# Altium integrated library Altera ACEX 1K.IntLib: 67 symbols (part 5 of 7)
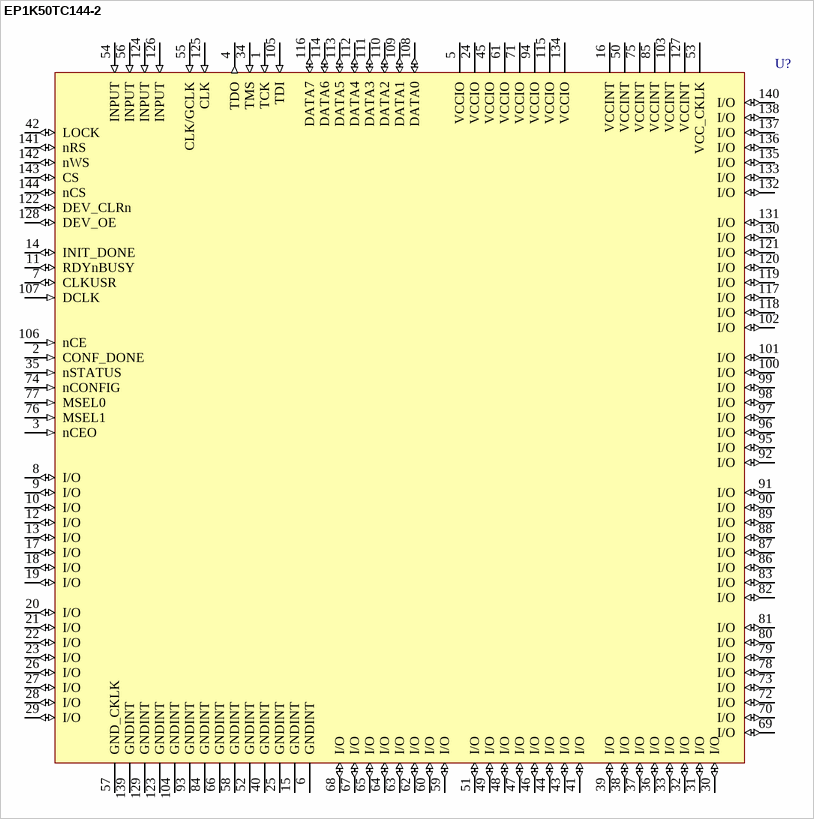
[diagram p77: symbol EP1K50TC144-2]

## EP1K50TC144-2
designator U?
ACEX 1K PLD with 102 I/O Pins, 144-pin TQFP, Commercial Grade, Speed Grade 2; Published: 17-Jul-2002; LatestRevisionDate: 13-Apr-2006; LatestRevisionNote: IPC-7351 Footprint Added.; DatasheetVersion: May-2003; PackageVersion: ver14.1, Oct-2005; PackageReference: TQFP144; Publisher: Altium Limited; PackageDescription: 144-Pin Plastic Thin Quad Flat Pack (TQFP144); Code_JEDEC: MS-026-BFB; ComponentLink1Description: Manufacturer Link; ComponentLink1URL: http://www.altera.com/products/devices/acex/acx-index.html; ComponentLink2Description: Datasheet; ComponentLink2URL: http://www.altera.com/literature/ds/acex.pdf
footprint TQFP144_N (Thin QFP, 144-Leads, Body 20x20mm, Pitch 0.5mm, IPC Medium Density)
footprint TQFP144_L (Thin QFP, 144-Leads, Body 20x20mm, Pitch 0.5mm, IPC High Density)
footprint TQFP144_M (Thin QFP, 144-Leads, Body 20x20mm, Pitch 0.5mm, IPC Low Density)
3D model EP1K50-TQFP144 (144-Pin Plastic Thin Quad Flat Pack (TQFP144))
pins: 1 TCK (in), 2 CONF_DONE (in), 3 nCEO (in), 4 TDO (out), 5 VCCIO (power), 6 GNDINT (power), 7 CLKUSR (io), 8 I/O (io), 9 I/O (io), 10 I/O (io), 11 RDYnBUSY (io), 12 I/O (io), 13 I/O (io), 14 INIT_DONE (io), 15 GNDINT (power), 16 VCCINT (power), 17 I/O (io), 18 I/O (io), 19 I/O (io), 20 I/O (io), 21 I/O (io), 22 I/O (io), 23 I/O (io), 24 VCCIO (power), 25 GNDINT (power), 26 I/O (io), 27 I/O (io), 28 I/O (io), 29 I/O (io), 30 I/O (io), 31 I/O (io), 32 I/O (io), 33 I/O (io), 34 TMS (in), 35 nSTATUS (in), 36 I/O (io), 37 I/O (io), 38 I/O (io), 39 I/O (io), 40 GNDINT (power), 41 I/O (io), 42 LOCK (io), 43 I/O (io), 44 I/O (io), 45 VCCIO (power), 46 I/O (io), 47 I/O (io), 48 I/O (io), 49 I/O (io), 50 VCCINT (power), 51 I/O (io), 52 GNDINT (power), 53 VCC_CKLK (power), 54 INPUT (in), 55 CLK/GCLK (in), 56 INPUT (in), 57 GND_CKLK (power), 58 GNDINT (power), 59 I/O (io), 60 I/O (io), 61 VCCIO (power), 62 I/O (io), 63 I/O (io), 64 I/O (io), 65 I/O (io), 66 GNDINT (power), 67 I/O (io), 68 I/O (io), 69 I/O (io), 70 I/O (io), 71 VCCIO (power), 72 I/O (io), 73 I/O (io), 74 nCONFIG (in), 75 VCCINT (power), 76 MSEL1 (in), 77 MSEL0 (in), 78 I/O (io), 79 I/O (io), 80 I/O (io), 81 I/O (io), 82 I/O (io), 83 I/O (io), 84 GNDINT (power), 85 VCCINT (power), 86 I/O (io), 87 I/O (io), 88 I/O (io), 89 I/O (io), 90 I/O (io), 91 I/O (io), 92 I/O (io), 93 GNDINT (power), 94 VCCIO (power), 95 I/O (io), 96 I/O (io), 97 I/O (io), 98 I/O (io), 99 I/O (io), 100 I/O (io), 101 I/O (io), 102 I/O (io), 103 VCCINT (power), 104 GNDINT (power), 105 TDI (in), 106 nCE (in), 107 DCLK (in), 108 DATA0 (io), 109 DATA1 (io), 110 DATA2 (io), 111 DATA3 (io), 112 DATA4 (io), 113 DATA5 (io), 114 DATA6 (io), 115 VCCIO (power), 116 DATA7 (io), 117 I/O (io), 118 I/O (io), 119 I/O (io), 120 I/O (io), 121 I/O (io), 122 DEV_CLRn (io), 123 GNDINT (power), 124 INPUT (in), 125 CLK (in), 126 INPUT (in), 127 VCCINT (power), 128 DEV_OE (io), 129 GNDINT (power), 130 I/O (io), 131 I/O (io), 132 I/O (io), 133 I/O (io), 134 VCCIO (power), 135 I/O (io), 136 I/O (io), 137 I/O (io), 138 I/O (io), 139 GNDINT (power), 140 I/O (io), 141 nRS (io), 142 nWS (io), 143 CS (io), 144 nCS (io)

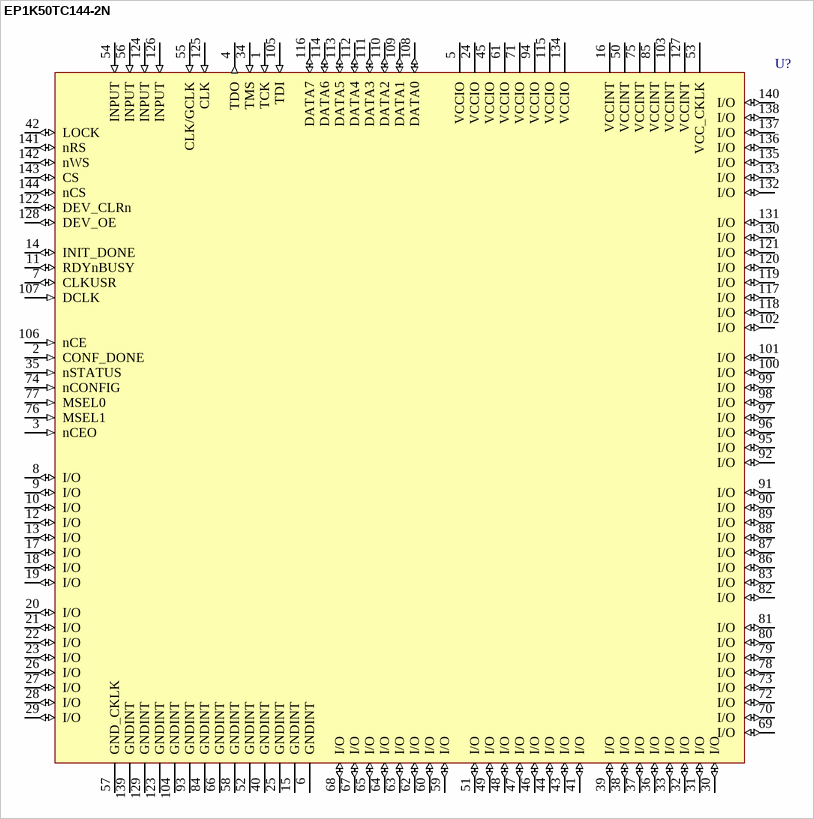
[diagram p40: symbol EP1K50TC144-2N]

## EP1K50TC144-2N
designator U?
ACEX 1K PLD with 102 I/O Pins, 144-pin TQFP, Commercial Grade, Speed Grade 2, Pb-Free; Published: 4-Mar-2005; LatestRevisionDate: 13-Apr-2006; LatestRevisionNote: IPC-7351 Footprint Added.; DatasheetVersion: May-2003; PackageVersion: ver14.1, Oct-2005; PackageReference: TQFP144; Publisher: Altium Limited; PackageDescription: 144-Pin Plastic Thin Quad Flat Pack (TQFP144); Code_JEDEC: MS-026-BFB; ComponentLink1Description: Manufacturer Link; ComponentLink1URL: http://www.altera.com/products/devices/acex/acx-index.html; ComponentLink2Description: Datasheet; ComponentLink2URL: http://www.altera.com/literature/ds/acex.pdf
footprint TQFP144_N (Thin QFP, 144-Leads, Body 20x20mm, Pitch 0.5mm, IPC Medium Density)
footprint TQFP144_L (Thin QFP, 144-Leads, Body 20x20mm, Pitch 0.5mm, IPC High Density)
footprint TQFP144_M (Thin QFP, 144-Leads, Body 20x20mm, Pitch 0.5mm, IPC Low Density)
3D model EP1K50-TQFP144 (144-Pin Plastic Thin Quad Flat Pack (TQFP144))
pins: 1 TCK (in), 2 CONF_DONE (in), 3 nCEO (in), 4 TDO (out), 5 VCCIO (power), 6 GNDINT (power), 7 CLKUSR (io), 8 I/O (io), 9 I/O (io), 10 I/O (io), 11 RDYnBUSY (io), 12 I/O (io), 13 I/O (io), 14 INIT_DONE (io), 15 GNDINT (power), 16 VCCINT (power), 17 I/O (io), 18 I/O (io), 19 I/O (io), 20 I/O (io), 21 I/O (io), 22 I/O (io), 23 I/O (io), 24 VCCIO (power), 25 GNDINT (power), 26 I/O (io), 27 I/O (io), 28 I/O (io), 29 I/O (io), 30 I/O (io), 31 I/O (io), 32 I/O (io), 33 I/O (io), 34 TMS (in), 35 nSTATUS (in), 36 I/O (io), 37 I/O (io), 38 I/O (io), 39 I/O (io), 40 GNDINT (power), 41 I/O (io), 42 LOCK (io), 43 I/O (io), 44 I/O (io), 45 VCCIO (power), 46 I/O (io), 47 I/O (io), 48 I/O (io), 49 I/O (io), 50 VCCINT (power), 51 I/O (io), 52 GNDINT (power), 53 VCC_CKLK (power), 54 INPUT (in), 55 CLK/GCLK (in), 56 INPUT (in), 57 GND_CKLK (power), 58 GNDINT (power), 59 I/O (io), 60 I/O (io), 61 VCCIO (power), 62 I/O (io), 63 I/O (io), 64 I/O (io), 65 I/O (io), 66 GNDINT (power), 67 I/O (io), 68 I/O (io), 69 I/O (io), 70 I/O (io), 71 VCCIO (power), 72 I/O (io), 73 I/O (io), 74 nCONFIG (in), 75 VCCINT (power), 76 MSEL1 (in), 77 MSEL0 (in), 78 I/O (io), 79 I/O (io), 80 I/O (io), 81 I/O (io), 82 I/O (io), 83 I/O (io), 84 GNDINT (power), 85 VCCINT (power), 86 I/O (io), 87 I/O (io), 88 I/O (io), 89 I/O (io), 90 I/O (io), 91 I/O (io), 92 I/O (io), 93 GNDINT (power), 94 VCCIO (power), 95 I/O (io), 96 I/O (io), 97 I/O (io), 98 I/O (io), 99 I/O (io), 100 I/O (io), 101 I/O (io), 102 I/O (io), 103 VCCINT (power), 104 GNDINT (power), 105 TDI (in), 106 nCE (in), 107 DCLK (in), 108 DATA0 (io), 109 DATA1 (io), 110 DATA2 (io), 111 DATA3 (io), 112 DATA4 (io), 113 DATA5 (io), 114 DATA6 (io), 115 VCCIO (power), 116 DATA7 (io), 117 I/O (io), 118 I/O (io), 119 I/O (io), 120 I/O (io), 121 I/O (io), 122 DEV_CLRn (io), 123 GNDINT (power), 124 INPUT (in), 125 CLK (in), 126 INPUT (in), 127 VCCINT (power), 128 DEV_OE (io), 129 GNDINT (power), 130 I/O (io), 131 I/O (io), 132 I/O (io), 133 I/O (io), 134 VCCIO (power), 135 I/O (io), 136 I/O (io), 137 I/O (io), 138 I/O (io), 139 GNDINT (power), 140 I/O (io), 141 nRS (io), 142 nWS (io), 143 CS (io), 144 nCS (io)

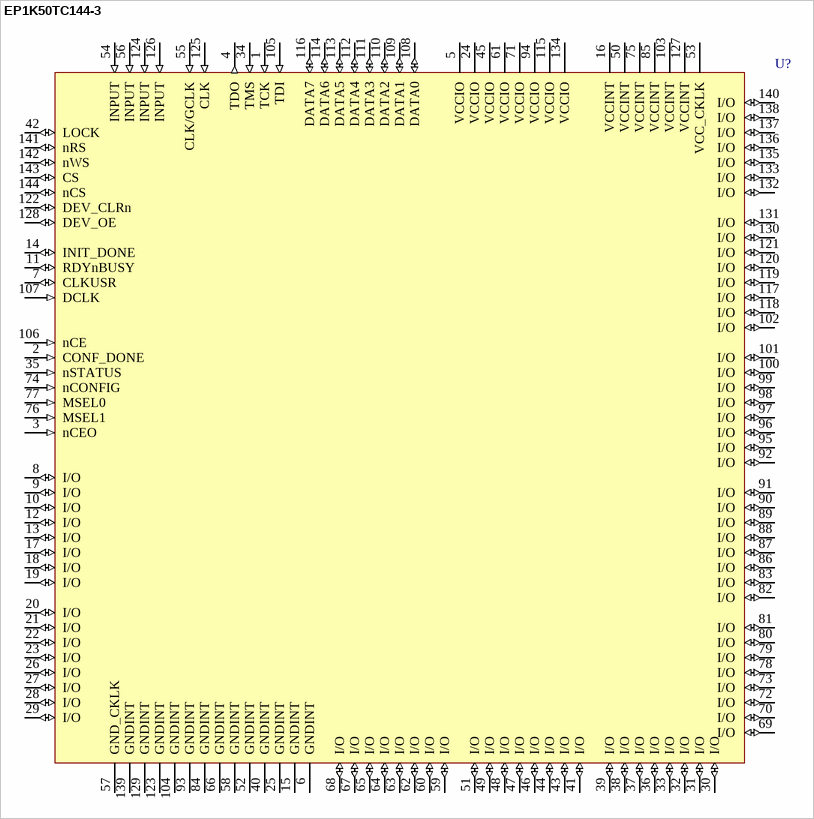
[diagram p41: symbol EP1K50TC144-3]

## EP1K50TC144-3
designator U?
ACEX 1K PLD with 102 I/O Pins, 144-pin TQFP, Commercial Grade, Speed Grade 3; Published: 17-Jul-2002; LatestRevisionDate: 13-Apr-2006; LatestRevisionNote: IPC-7351 Footprint Added.; DatasheetVersion: May-2003; PackageVersion: ver14.1, Oct-2005; PackageReference: TQFP144; Publisher: Altium Limited; PackageDescription: 144-Pin Plastic Thin Quad Flat Pack (TQFP144); Code_JEDEC: MS-026-BFB; ComponentLink1Description: Manufacturer Link; ComponentLink1URL: http://www.altera.com/products/devices/acex/acx-index.html; ComponentLink2Description: Datasheet; ComponentLink2URL: http://www.altera.com/literature/ds/acex.pdf
footprint TQFP144_N (Thin QFP, 144-Leads, Body 20x20mm, Pitch 0.5mm, IPC Medium Density)
footprint TQFP144_L (Thin QFP, 144-Leads, Body 20x20mm, Pitch 0.5mm, IPC High Density)
footprint TQFP144_M (Thin QFP, 144-Leads, Body 20x20mm, Pitch 0.5mm, IPC Low Density)
3D model EP1K50-TQFP144 (144-Pin Plastic Thin Quad Flat Pack (TQFP144))
pins: 1 TCK (in), 2 CONF_DONE (in), 3 nCEO (in), 4 TDO (out), 5 VCCIO (power), 6 GNDINT (power), 7 CLKUSR (io), 8 I/O (io), 9 I/O (io), 10 I/O (io), 11 RDYnBUSY (io), 12 I/O (io), 13 I/O (io), 14 INIT_DONE (io), 15 GNDINT (power), 16 VCCINT (power), 17 I/O (io), 18 I/O (io), 19 I/O (io), 20 I/O (io), 21 I/O (io), 22 I/O (io), 23 I/O (io), 24 VCCIO (power), 25 GNDINT (power), 26 I/O (io), 27 I/O (io), 28 I/O (io), 29 I/O (io), 30 I/O (io), 31 I/O (io), 32 I/O (io), 33 I/O (io), 34 TMS (in), 35 nSTATUS (in), 36 I/O (io), 37 I/O (io), 38 I/O (io), 39 I/O (io), 40 GNDINT (power), 41 I/O (io), 42 LOCK (io), 43 I/O (io), 44 I/O (io), 45 VCCIO (power), 46 I/O (io), 47 I/O (io), 48 I/O (io), 49 I/O (io), 50 VCCINT (power), 51 I/O (io), 52 GNDINT (power), 53 VCC_CKLK (power), 54 INPUT (in), 55 CLK/GCLK (in), 56 INPUT (in), 57 GND_CKLK (power), 58 GNDINT (power), 59 I/O (io), 60 I/O (io), 61 VCCIO (power), 62 I/O (io), 63 I/O (io), 64 I/O (io), 65 I/O (io), 66 GNDINT (power), 67 I/O (io), 68 I/O (io), 69 I/O (io), 70 I/O (io), 71 VCCIO (power), 72 I/O (io), 73 I/O (io), 74 nCONFIG (in), 75 VCCINT (power), 76 MSEL1 (in), 77 MSEL0 (in), 78 I/O (io), 79 I/O (io), 80 I/O (io), 81 I/O (io), 82 I/O (io), 83 I/O (io), 84 GNDINT (power), 85 VCCINT (power), 86 I/O (io), 87 I/O (io), 88 I/O (io), 89 I/O (io), 90 I/O (io), 91 I/O (io), 92 I/O (io), 93 GNDINT (power), 94 VCCIO (power), 95 I/O (io), 96 I/O (io), 97 I/O (io), 98 I/O (io), 99 I/O (io), 100 I/O (io), 101 I/O (io), 102 I/O (io), 103 VCCINT (power), 104 GNDINT (power), 105 TDI (in), 106 nCE (in), 107 DCLK (in), 108 DATA0 (io), 109 DATA1 (io), 110 DATA2 (io), 111 DATA3 (io), 112 DATA4 (io), 113 DATA5 (io), 114 DATA6 (io), 115 VCCIO (power), 116 DATA7 (io), 117 I/O (io), 118 I/O (io), 119 I/O (io), 120 I/O (io), 121 I/O (io), 122 DEV_CLRn (io), 123 GNDINT (power), 124 INPUT (in), 125 CLK (in), 126 INPUT (in), 127 VCCINT (power), 128 DEV_OE (io), 129 GNDINT (power), 130 I/O (io), 131 I/O (io), 132 I/O (io), 133 I/O (io), 134 VCCIO (power), 135 I/O (io), 136 I/O (io), 137 I/O (io), 138 I/O (io), 139 GNDINT (power), 140 I/O (io), 141 nRS (io), 142 nWS (io), 143 CS (io), 144 nCS (io)

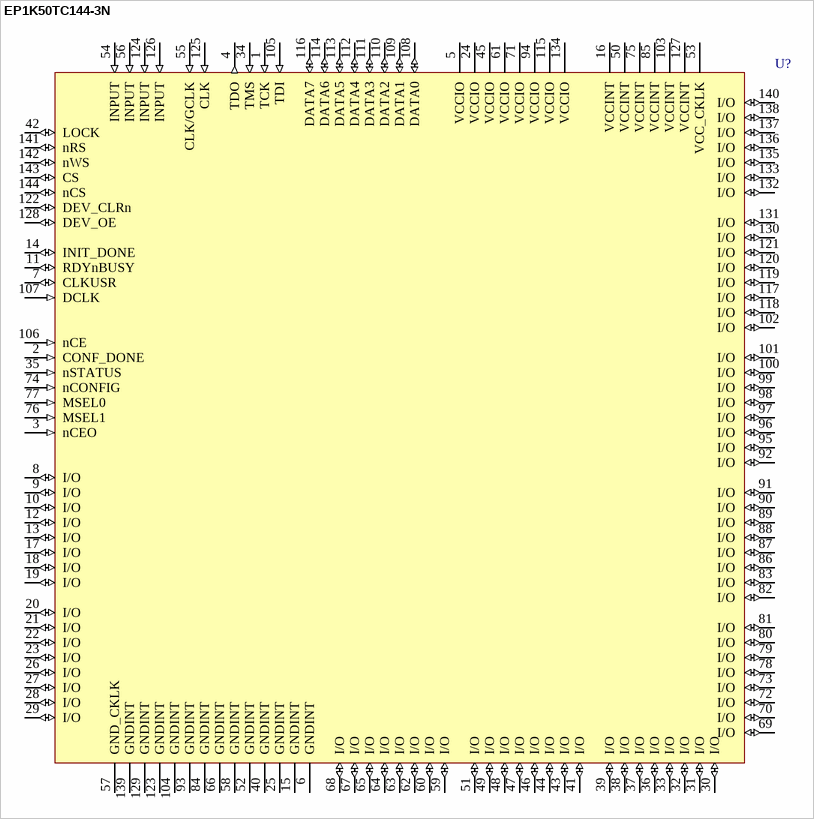
[diagram p42: symbol EP1K50TC144-3N]

## EP1K50TC144-3N
designator U?
ACEX 1K PLD with 102 I/O Pins, 144-pin TQFP, Commercial Grade, Speed Grade 3, Pb-Free; Published: 4-Mar-2005; LatestRevisionDate: 13-Apr-2006; LatestRevisionNote: IPC-7351 Footprint Added.; DatasheetVersion: May-2003; PackageVersion: ver14.1, Oct-2005; PackageReference: TQFP144; Publisher: Altium Limited; PackageDescription: 144-Pin Plastic Thin Quad Flat Pack (TQFP144); Code_JEDEC: MS-026-BFB; ComponentLink1Description: Manufacturer Link; ComponentLink1URL: http://www.altera.com/products/devices/acex/acx-index.html; ComponentLink2Description: Datasheet; ComponentLink2URL: http://www.altera.com/literature/ds/acex.pdf
footprint TQFP144_N (Thin QFP, 144-Leads, Body 20x20mm, Pitch 0.5mm, IPC Medium Density)
footprint TQFP144_L (Thin QFP, 144-Leads, Body 20x20mm, Pitch 0.5mm, IPC High Density)
footprint TQFP144_M (Thin QFP, 144-Leads, Body 20x20mm, Pitch 0.5mm, IPC Low Density)
3D model EP1K50-TQFP144 (144-Pin Plastic Thin Quad Flat Pack (TQFP144))
pins: 1 TCK (in), 2 CONF_DONE (in), 3 nCEO (in), 4 TDO (out), 5 VCCIO (power), 6 GNDINT (power), 7 CLKUSR (io), 8 I/O (io), 9 I/O (io), 10 I/O (io), 11 RDYnBUSY (io), 12 I/O (io), 13 I/O (io), 14 INIT_DONE (io), 15 GNDINT (power), 16 VCCINT (power), 17 I/O (io), 18 I/O (io), 19 I/O (io), 20 I/O (io), 21 I/O (io), 22 I/O (io), 23 I/O (io), 24 VCCIO (power), 25 GNDINT (power), 26 I/O (io), 27 I/O (io), 28 I/O (io), 29 I/O (io), 30 I/O (io), 31 I/O (io), 32 I/O (io), 33 I/O (io), 34 TMS (in), 35 nSTATUS (in), 36 I/O (io), 37 I/O (io), 38 I/O (io), 39 I/O (io), 40 GNDINT (power), 41 I/O (io), 42 LOCK (io), 43 I/O (io), 44 I/O (io), 45 VCCIO (power), 46 I/O (io), 47 I/O (io), 48 I/O (io), 49 I/O (io), 50 VCCINT (power), 51 I/O (io), 52 GNDINT (power), 53 VCC_CKLK (power), 54 INPUT (in), 55 CLK/GCLK (in), 56 INPUT (in), 57 GND_CKLK (power), 58 GNDINT (power), 59 I/O (io), 60 I/O (io), 61 VCCIO (power), 62 I/O (io), 63 I/O (io), 64 I/O (io), 65 I/O (io), 66 GNDINT (power), 67 I/O (io), 68 I/O (io), 69 I/O (io), 70 I/O (io), 71 VCCIO (power), 72 I/O (io), 73 I/O (io), 74 nCONFIG (in), 75 VCCINT (power), 76 MSEL1 (in), 77 MSEL0 (in), 78 I/O (io), 79 I/O (io), 80 I/O (io), 81 I/O (io), 82 I/O (io), 83 I/O (io), 84 GNDINT (power), 85 VCCINT (power), 86 I/O (io), 87 I/O (io), 88 I/O (io), 89 I/O (io), 90 I/O (io), 91 I/O (io), 92 I/O (io), 93 GNDINT (power), 94 VCCIO (power), 95 I/O (io), 96 I/O (io), 97 I/O (io), 98 I/O (io), 99 I/O (io), 100 I/O (io), 101 I/O (io), 102 I/O (io), 103 VCCINT (power), 104 GNDINT (power), 105 TDI (in), 106 nCE (in), 107 DCLK (in), 108 DATA0 (io), 109 DATA1 (io), 110 DATA2 (io), 111 DATA3 (io), 112 DATA4 (io), 113 DATA5 (io), 114 DATA6 (io), 115 VCCIO (power), 116 DATA7 (io), 117 I/O (io), 118 I/O (io), 119 I/O (io), 120 I/O (io), 121 I/O (io), 122 DEV_CLRn (io), 123 GNDINT (power), 124 INPUT (in), 125 CLK (in), 126 INPUT (in), 127 VCCINT (power), 128 DEV_OE (io), 129 GNDINT (power), 130 I/O (io), 131 I/O (io), 132 I/O (io), 133 I/O (io), 134 VCCIO (power), 135 I/O (io), 136 I/O (io), 137 I/O (io), 138 I/O (io), 139 GNDINT (power), 140 I/O (io), 141 nRS (io), 142 nWS (io), 143 CS (io), 144 nCS (io)

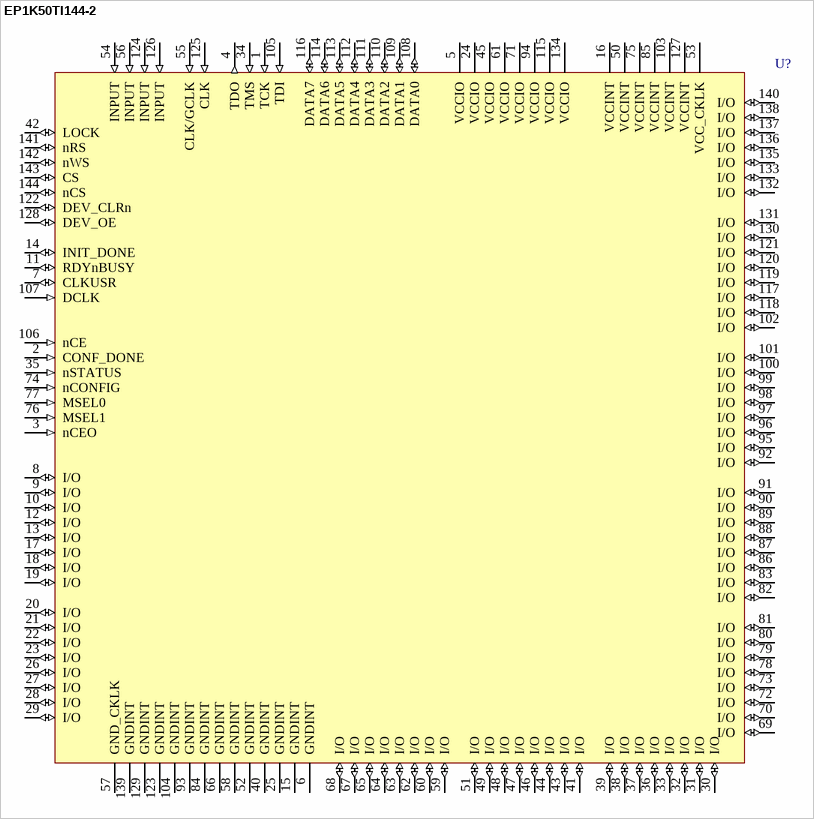
[diagram p43: symbol EP1K50TI144-2]

## EP1K50TI144-2
designator U?
ACEX 1K PLD with 102 I/O Pins, 144-pin TQFP, Industrial Grade, Speed Grade 2; Published: 17-Jul-2002; LatestRevisionDate: 13-Apr-2006; LatestRevisionNote: IPC-7351 Footprint Added.; DatasheetVersion: May-2003; PackageVersion: ver14.1, Oct-2005; PackageReference: TQFP144; Publisher: Altium Limited; PackageDescription: 144-Pin Plastic Thin Quad Flat Pack (TQFP144); Code_JEDEC: MS-026-BFB; ComponentLink1Description: Manufacturer Link; ComponentLink1URL: http://www.altera.com/products/devices/acex/acx-index.html; ComponentLink2Description: Datasheet; ComponentLink2URL: http://www.altera.com/literature/ds/acex.pdf
footprint TQFP144_N (Thin QFP, 144-Leads, Body 20x20mm, Pitch 0.5mm, IPC Medium Density)
footprint TQFP144_L (Thin QFP, 144-Leads, Body 20x20mm, Pitch 0.5mm, IPC High Density)
footprint TQFP144_M (Thin QFP, 144-Leads, Body 20x20mm, Pitch 0.5mm, IPC Low Density)
3D model EP1K50-TQFP144 (144-Pin Plastic Thin Quad Flat Pack (TQFP144))
pins: 1 TCK (in), 2 CONF_DONE (in), 3 nCEO (in), 4 TDO (out), 5 VCCIO (power), 6 GNDINT (power), 7 CLKUSR (io), 8 I/O (io), 9 I/O (io), 10 I/O (io), 11 RDYnBUSY (io), 12 I/O (io), 13 I/O (io), 14 INIT_DONE (io), 15 GNDINT (power), 16 VCCINT (power), 17 I/O (io), 18 I/O (io), 19 I/O (io), 20 I/O (io), 21 I/O (io), 22 I/O (io), 23 I/O (io), 24 VCCIO (power), 25 GNDINT (power), 26 I/O (io), 27 I/O (io), 28 I/O (io), 29 I/O (io), 30 I/O (io), 31 I/O (io), 32 I/O (io), 33 I/O (io), 34 TMS (in), 35 nSTATUS (in), 36 I/O (io), 37 I/O (io), 38 I/O (io), 39 I/O (io), 40 GNDINT (power), 41 I/O (io), 42 LOCK (io), 43 I/O (io), 44 I/O (io), 45 VCCIO (power), 46 I/O (io), 47 I/O (io), 48 I/O (io), 49 I/O (io), 50 VCCINT (power), 51 I/O (io), 52 GNDINT (power), 53 VCC_CKLK (power), 54 INPUT (in), 55 CLK/GCLK (in), 56 INPUT (in), 57 GND_CKLK (power), 58 GNDINT (power), 59 I/O (io), 60 I/O (io), 61 VCCIO (power), 62 I/O (io), 63 I/O (io), 64 I/O (io), 65 I/O (io), 66 GNDINT (power), 67 I/O (io), 68 I/O (io), 69 I/O (io), 70 I/O (io), 71 VCCIO (power), 72 I/O (io), 73 I/O (io), 74 nCONFIG (in), 75 VCCINT (power), 76 MSEL1 (in), 77 MSEL0 (in), 78 I/O (io), 79 I/O (io), 80 I/O (io), 81 I/O (io), 82 I/O (io), 83 I/O (io), 84 GNDINT (power), 85 VCCINT (power), 86 I/O (io), 87 I/O (io), 88 I/O (io), 89 I/O (io), 90 I/O (io), 91 I/O (io), 92 I/O (io), 93 GNDINT (power), 94 VCCIO (power), 95 I/O (io), 96 I/O (io), 97 I/O (io), 98 I/O (io), 99 I/O (io), 100 I/O (io), 101 I/O (io), 102 I/O (io), 103 VCCINT (power), 104 GNDINT (power), 105 TDI (in), 106 nCE (in), 107 DCLK (in), 108 DATA0 (io), 109 DATA1 (io), 110 DATA2 (io), 111 DATA3 (io), 112 DATA4 (io), 113 DATA5 (io), 114 DATA6 (io), 115 VCCIO (power), 116 DATA7 (io), 117 I/O (io), 118 I/O (io), 119 I/O (io), 120 I/O (io), 121 I/O (io), 122 DEV_CLRn (io), 123 GNDINT (power), 124 INPUT (in), 125 CLK (in), 126 INPUT (in), 127 VCCINT (power), 128 DEV_OE (io), 129 GNDINT (power), 130 I/O (io), 131 I/O (io), 132 I/O (io), 133 I/O (io), 134 VCCIO (power), 135 I/O (io), 136 I/O (io), 137 I/O (io), 138 I/O (io), 139 GNDINT (power), 140 I/O (io), 141 nRS (io), 142 nWS (io), 143 CS (io), 144 nCS (io)

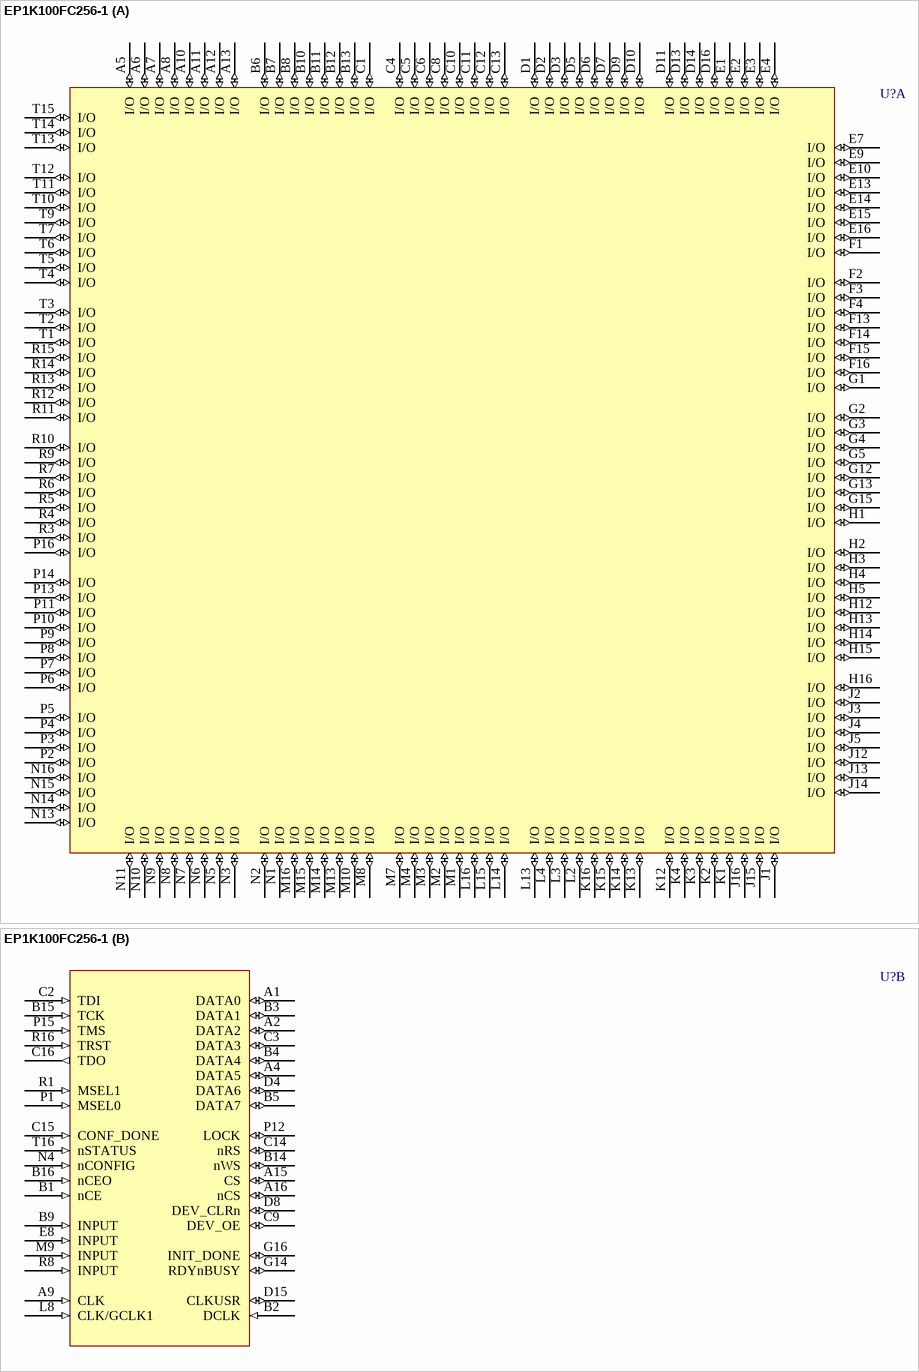
[diagram p44: symbol EP1K100FC256-1]

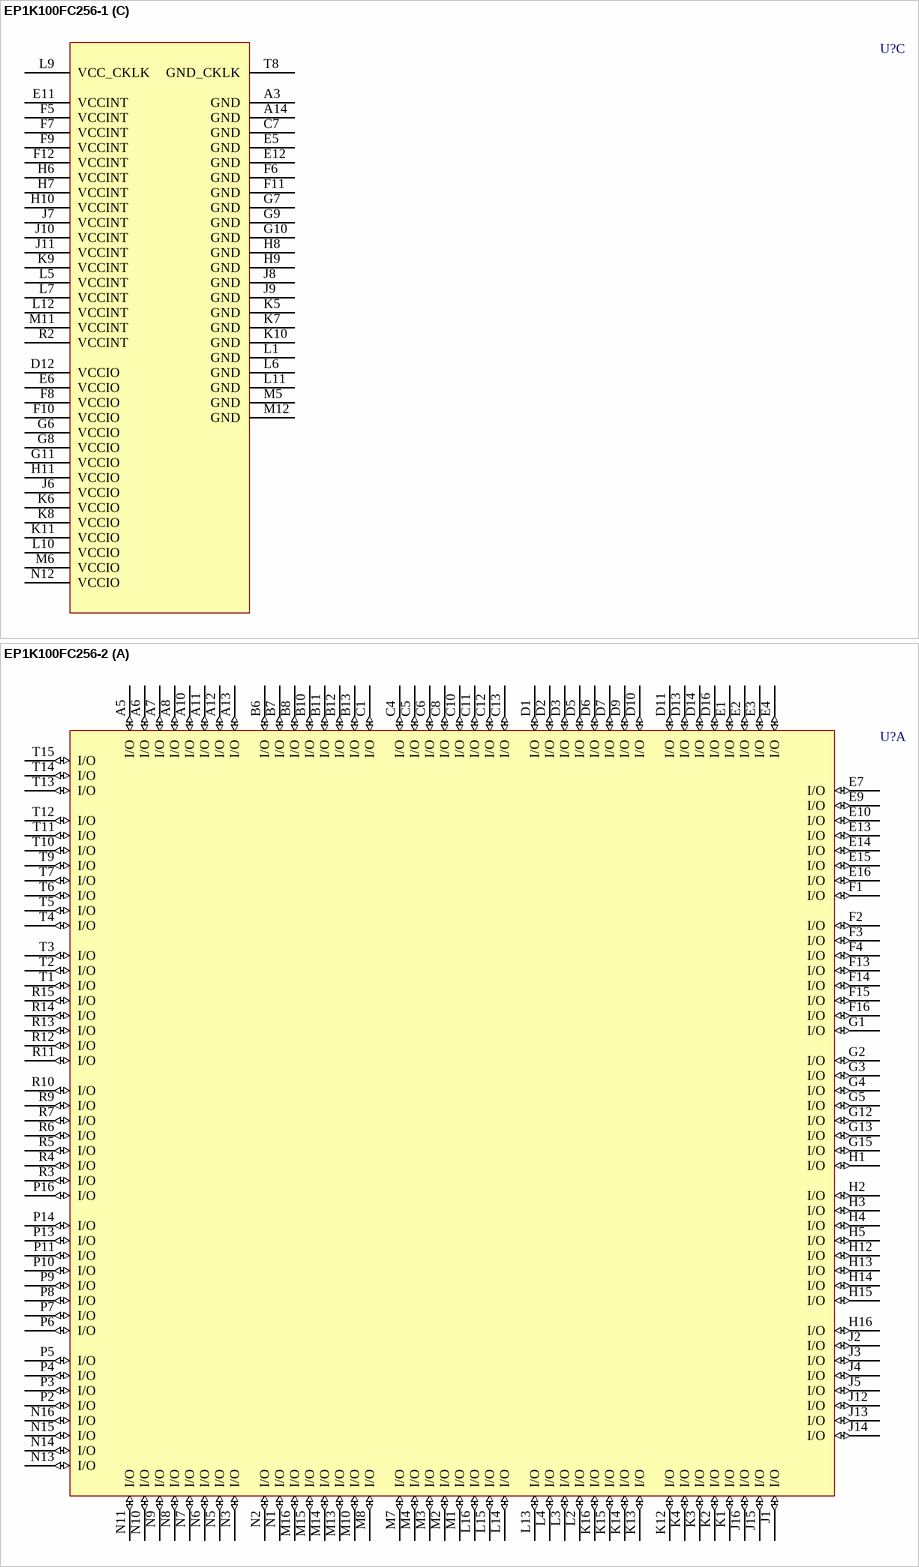
[diagram p45: symbols EP1K100FC256-1 to EP1K100FC256-2]

## EP1K100FC256-1
designator U?
ACEX 1K PLD with 186 I/O Pins, 256-pin FBGA, Commercial Grade, Speed Grade 1; Published: 17-Jul-2002; LatestRevisionDate: 13-Apr-2006; LatestRevisionNote: IPC-7351 Footprint Added.; DatasheetVersion: May-2003; PackageVersion: ver14.1, Oct-2005; PackageReference: FBGA256; Publisher: Altium Limited; PackageDescription: 256-Ball FineLine Ball Grid Array (FBGA256) - Option 1; Code_JEDEC: MS-034-AAF-1; Code_IPC: BGA100P16X16-256; ComponentLink1Description: Manufacturer Link; ComponentLink1URL: http://www.altera.com/products/devices/acex/acx-index.html; ComponentLink2Description: Datasheet; ComponentLink2URL: http://www.altera.com/literature/ds/acex.pdf
footprint FBGA256 (BGA, 256-Leads, Body 17x17mm, Pitch 1mm)
3D model EP1K100-FBGA256 (256-Ball FineLine Ball Grid Array (FBGA256) - Option 1)
part A pins: A5 I/O (io), A6 I/O (io), A7 I/O (io), A8 I/O (io), A10 I/O (io), A11 I/O (io), A12 I/O (io), A13 I/O (io), B6 I/O (io), B7 I/O (io), B8 I/O (io), B10 I/O (io), B11 I/O (io), B12 I/O (io), B13 I/O (io), C1 I/O (io), C4 I/O (io), C5 I/O (io), C6 I/O (io), C8 I/O (io), C10 I/O (io), C11 I/O (io), C12 I/O (io), C13 I/O (io), D1 I/O (io), D2 I/O (io), D3 I/O (io), D5 I/O (io), D6 I/O (io), D7 I/O (io), D9 I/O (io), D10 I/O (io), D11 I/O (io), D13 I/O (io), D14 I/O (io), D16 I/O (io), E1 I/O (io), E2 I/O (io), E3 I/O (io), E4 I/O (io), E7 I/O (io), E9 I/O (io), E10 I/O (io), E13 I/O (io), E14 I/O (io), E15 I/O (io), E16 I/O (io), F1 I/O (io), F2 I/O (io), F3 I/O (io), F4 I/O (io), F13 I/O (io), F14 I/O (io), F15 I/O (io), F16 I/O (io), G1 I/O (io), G2 I/O (io), G3 I/O (io), G4 I/O (io), G5 I/O (io), G12 I/O (io), G13 I/O (io), G15 I/O (io), H1 I/O (io), H2 I/O (io), H3 I/O (io), H4 I/O (io), H5 I/O (io), H12 I/O (io), H13 I/O (io), H14 I/O (io), H15 I/O (io), H16 I/O (io), J1 I/O (io), J2 I/O (io), J3 I/O (io), J4 I/O (io), J5 I/O (io), J12 I/O (io), J13 I/O (io), J14 I/O (io), J15 I/O (io), J16 I/O (io), K1 I/O (io), K2 I/O (io), K3 I/O (io), K4 I/O (io), K12 I/O (io), K13 I/O (io), K14 I/O (io), K15 I/O (io), K16 I/O (io), L2 I/O (io), L3 I/O (io), L4 I/O (io), L13 I/O (io), L14 I/O (io), L15 I/O (io), L16 I/O (io), M1 I/O (io), M2 I/O (io), M3 I/O (io), M4 I/O (io), M7 I/O (io), M8 I/O (io), M10 I/O (io), M13 I/O (io), M14 I/O (io), M15 I/O (io), M16 I/O (io), N1 I/O (io), N2 I/O (io), N3 I/O (io), N5 I/O (io), N6 I/O (io), N7 I/O (io), N8 I/O (io), N9 I/O (io), N10 I/O (io), N11 I/O (io), N13 I/O (io), N14 I/O (io), N15 I/O (io), N16 I/O (io), P2 I/O (io), P3 I/O (io), P4 I/O (io), P5 I/O (io), P6 I/O (io), P7 I/O (io), P8 I/O (io), P9 I/O (io), P10 I/O (io), P11 I/O (io), P13 I/O (io), P14 I/O (io), P16 I/O (io), R3 I/O (io), R4 I/O (io), R5 I/O (io), R6 I/O (io), R7 I/O (io), R9 I/O (io), R10 I/O (io), R11 I/O (io), R12 I/O (io), R13 I/O (io), R14 I/O (io), R15 I/O (io), T1 I/O (io), T2 I/O (io), T3 I/O (io), T4 I/O (io), T5 I/O (io), T6 I/O (io), T7 I/O (io), T9 I/O (io), T10 I/O (io), T11 I/O (io), T12 I/O (io), T13 I/O (io), T14 I/O (io), T15 I/O (io)
part B pins: A1 DATA0 (io), A2 DATA2 (io), A4 DATA5 (io), A9 CLK (in), A15 CS (io), A16 nCS (io), B1 nCE (in), B2 DCLK (in), B3 DATA1 (io), B4 DATA4 (io), B5 DATA7 (io), B9 INPUT (in), B14 nWS (io), B15 TCK (in), B16 nCEO (in), C2 TDI (in), C3 DATA3 (io), C9 DEV_OE (io), C14 nRS (io), C15 CONF_DONE (in), C16 TDO (out), D4 DATA6 (io), D8 DEV_CLRn (io), D15 CLKUSR (io), E8 INPUT (in), G14 RDYnBUSY (io), G16 INIT_DONE (io), L8 CLK/GCLK1 (in), M9 INPUT (in), N4 nCONFIG (in), P1 MSEL0 (in), P12 LOCK (io), P15 TMS (in), R1 MSEL1 (in), R8 INPUT (in), R16 TRST (in), T16 nSTATUS (in)
part C pins: A3 GND (power), A14 GND (power), C7 GND (power), D12 VCCIO (power), E5 GND (power), E6 VCCIO (power), E11 VCCINT (power), E12 GND (power), F5 VCCINT (power), F6 GND (power), F7 VCCINT (power), F8 VCCIO (power), F9 VCCINT (power), F10 VCCIO (power), F11 GND (power), F12 VCCINT (power), G6 VCCIO (power), G7 GND (power), G8 VCCIO (power), G9 GND (power), G10 GND (power), G11 VCCIO (power), H6 VCCINT (power), H7 VCCINT (power), H8 GND (power), H9 GND (power), H10 VCCINT (power), H11 VCCIO (power), J6 VCCIO (power), J7 VCCINT (power), J8 GND (power), J9 GND (power), J10 VCCINT (power), J11 VCCINT (power), K5 GND (power), K6 VCCIO (power), K7 GND (power), K8 VCCIO (power), K9 VCCINT (power), K10 GND (power), K11 VCCIO (power), L1 GND (power), L5 VCCINT (power), L6 GND (power), L7 VCCINT (power), L9 VCC_CKLK (power), L10 VCCIO (power), L11 GND (power), L12 VCCINT (power), M5 GND (power), M6 VCCIO (power), M11 VCCINT (power), M12 GND (power), N12 VCCIO (power), R2 VCCINT (power), T8 GND_CKLK (power)

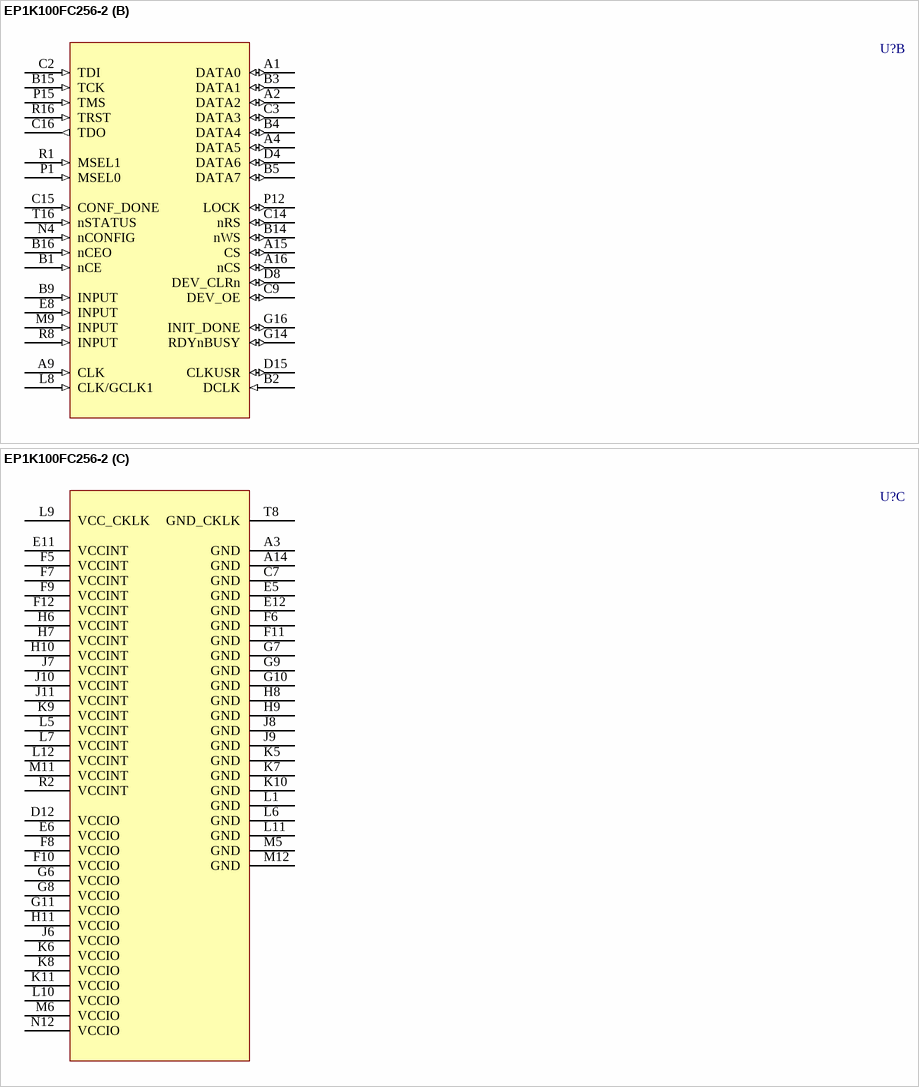
[diagram p46: symbol EP1K100FC256-2]

## EP1K100FC256-2
designator U?
ACEX 1K PLD with 186 I/O Pins, 256-pin FBGA, Commercial Grade, Speed Grade 2; Published: 17-Jul-2002; LatestRevisionDate: 13-Apr-2006; LatestRevisionNote: IPC-7351 Footprint Added.; DatasheetVersion: May-2003; PackageVersion: ver14.1, Oct-2005; PackageReference: FBGA256; Publisher: Altium Limited; PackageDescription: 256-Ball FineLine Ball Grid Array (FBGA256) - Option 1; Code_JEDEC: MS-034-AAF-1; Code_IPC: BGA100P16X16-256; ComponentLink1Description: Manufacturer Link; ComponentLink1URL: http://www.altera.com/products/devices/acex/acx-index.html; ComponentLink2Description: Datasheet; ComponentLink2URL: http://www.altera.com/literature/ds/acex.pdf
footprint FBGA256 (BGA, 256-Leads, Body 17x17mm, Pitch 1mm)
3D model EP1K100-FBGA256 (256-Ball FineLine Ball Grid Array (FBGA256) - Option 1)
part A pins: A5 I/O (io), A6 I/O (io), A7 I/O (io), A8 I/O (io), A10 I/O (io), A11 I/O (io), A12 I/O (io), A13 I/O (io), B6 I/O (io), B7 I/O (io), B8 I/O (io), B10 I/O (io), B11 I/O (io), B12 I/O (io), B13 I/O (io), C1 I/O (io), C4 I/O (io), C5 I/O (io), C6 I/O (io), C8 I/O (io), C10 I/O (io), C11 I/O (io), C12 I/O (io), C13 I/O (io), D1 I/O (io), D2 I/O (io), D3 I/O (io), D5 I/O (io), D6 I/O (io), D7 I/O (io), D9 I/O (io), D10 I/O (io), D11 I/O (io), D13 I/O (io), D14 I/O (io), D16 I/O (io), E1 I/O (io), E2 I/O (io), E3 I/O (io), E4 I/O (io), E7 I/O (io), E9 I/O (io), E10 I/O (io), E13 I/O (io), E14 I/O (io), E15 I/O (io), E16 I/O (io), F1 I/O (io), F2 I/O (io), F3 I/O (io), F4 I/O (io), F13 I/O (io), F14 I/O (io), F15 I/O (io), F16 I/O (io), G1 I/O (io), G2 I/O (io), G3 I/O (io), G4 I/O (io), G5 I/O (io), G12 I/O (io), G13 I/O (io), G15 I/O (io), H1 I/O (io), H2 I/O (io), H3 I/O (io), H4 I/O (io), H5 I/O (io), H12 I/O (io), H13 I/O (io), H14 I/O (io), H15 I/O (io), H16 I/O (io), J1 I/O (io), J2 I/O (io), J3 I/O (io), J4 I/O (io), J5 I/O (io), J12 I/O (io), J13 I/O (io), J14 I/O (io), J15 I/O (io), J16 I/O (io), K1 I/O (io), K2 I/O (io), K3 I/O (io), K4 I/O (io), K12 I/O (io), K13 I/O (io), K14 I/O (io), K15 I/O (io), K16 I/O (io), L2 I/O (io), L3 I/O (io), L4 I/O (io), L13 I/O (io), L14 I/O (io), L15 I/O (io), L16 I/O (io), M1 I/O (io), M2 I/O (io), M3 I/O (io), M4 I/O (io), M7 I/O (io), M8 I/O (io), M10 I/O (io), M13 I/O (io), M14 I/O (io), M15 I/O (io), M16 I/O (io), N1 I/O (io), N2 I/O (io), N3 I/O (io), N5 I/O (io), N6 I/O (io), N7 I/O (io), N8 I/O (io), N9 I/O (io), N10 I/O (io), N11 I/O (io), N13 I/O (io), N14 I/O (io), N15 I/O (io), N16 I/O (io), P2 I/O (io), P3 I/O (io), P4 I/O (io), P5 I/O (io), P6 I/O (io), P7 I/O (io), P8 I/O (io), P9 I/O (io), P10 I/O (io), P11 I/O (io), P13 I/O (io), P14 I/O (io), P16 I/O (io), R3 I/O (io), R4 I/O (io), R5 I/O (io), R6 I/O (io), R7 I/O (io), R9 I/O (io), R10 I/O (io), R11 I/O (io), R12 I/O (io), R13 I/O (io), R14 I/O (io), R15 I/O (io), T1 I/O (io), T2 I/O (io), T3 I/O (io), T4 I/O (io), T5 I/O (io), T6 I/O (io), T7 I/O (io), T9 I/O (io), T10 I/O (io), T11 I/O (io), T12 I/O (io), T13 I/O (io), T14 I/O (io), T15 I/O (io)
part B pins: A1 DATA0 (io), A2 DATA2 (io), A4 DATA5 (io), A9 CLK (in), A15 CS (io), A16 nCS (io), B1 nCE (in), B2 DCLK (in), B3 DATA1 (io), B4 DATA4 (io), B5 DATA7 (io), B9 INPUT (in), B14 nWS (io), B15 TCK (in), B16 nCEO (in), C2 TDI (in), C3 DATA3 (io), C9 DEV_OE (io), C14 nRS (io), C15 CONF_DONE (in), C16 TDO (out), D4 DATA6 (io), D8 DEV_CLRn (io), D15 CLKUSR (io), E8 INPUT (in), G14 RDYnBUSY (io), G16 INIT_DONE (io), L8 CLK/GCLK1 (in), M9 INPUT (in), N4 nCONFIG (in), P1 MSEL0 (in), P12 LOCK (io), P15 TMS (in), R1 MSEL1 (in), R8 INPUT (in), R16 TRST (in), T16 nSTATUS (in)
part C pins: A3 GND (power), A14 GND (power), C7 GND (power), D12 VCCIO (power), E5 GND (power), E6 VCCIO (power), E11 VCCINT (power), E12 GND (power), F5 VCCINT (power), F6 GND (power), F7 VCCINT (power), F8 VCCIO (power), F9 VCCINT (power), F10 VCCIO (power), F11 GND (power), F12 VCCINT (power), G6 VCCIO (power), G7 GND (power), G8 VCCIO (power), G9 GND (power), G10 GND (power), G11 VCCIO (power), H6 VCCINT (power), H7 VCCINT (power), H8 GND (power), H9 GND (power), H10 VCCINT (power), H11 VCCIO (power), J6 VCCIO (power), J7 VCCINT (power), J8 GND (power), J9 GND (power), J10 VCCINT (power), J11 VCCINT (power), K5 GND (power), K6 VCCIO (power), K7 GND (power), K8 VCCIO (power), K9 VCCINT (power), K10 GND (power), K11 VCCIO (power), L1 GND (power), L5 VCCINT (power), L6 GND (power), L7 VCCINT (power), L9 VCC_CKLK (power), L10 VCCIO (power), L11 GND (power), L12 VCCINT (power), M5 GND (power), M6 VCCIO (power), M11 VCCINT (power), M12 GND (power), N12 VCCIO (power), R2 VCCINT (power), T8 GND_CKLK (power)

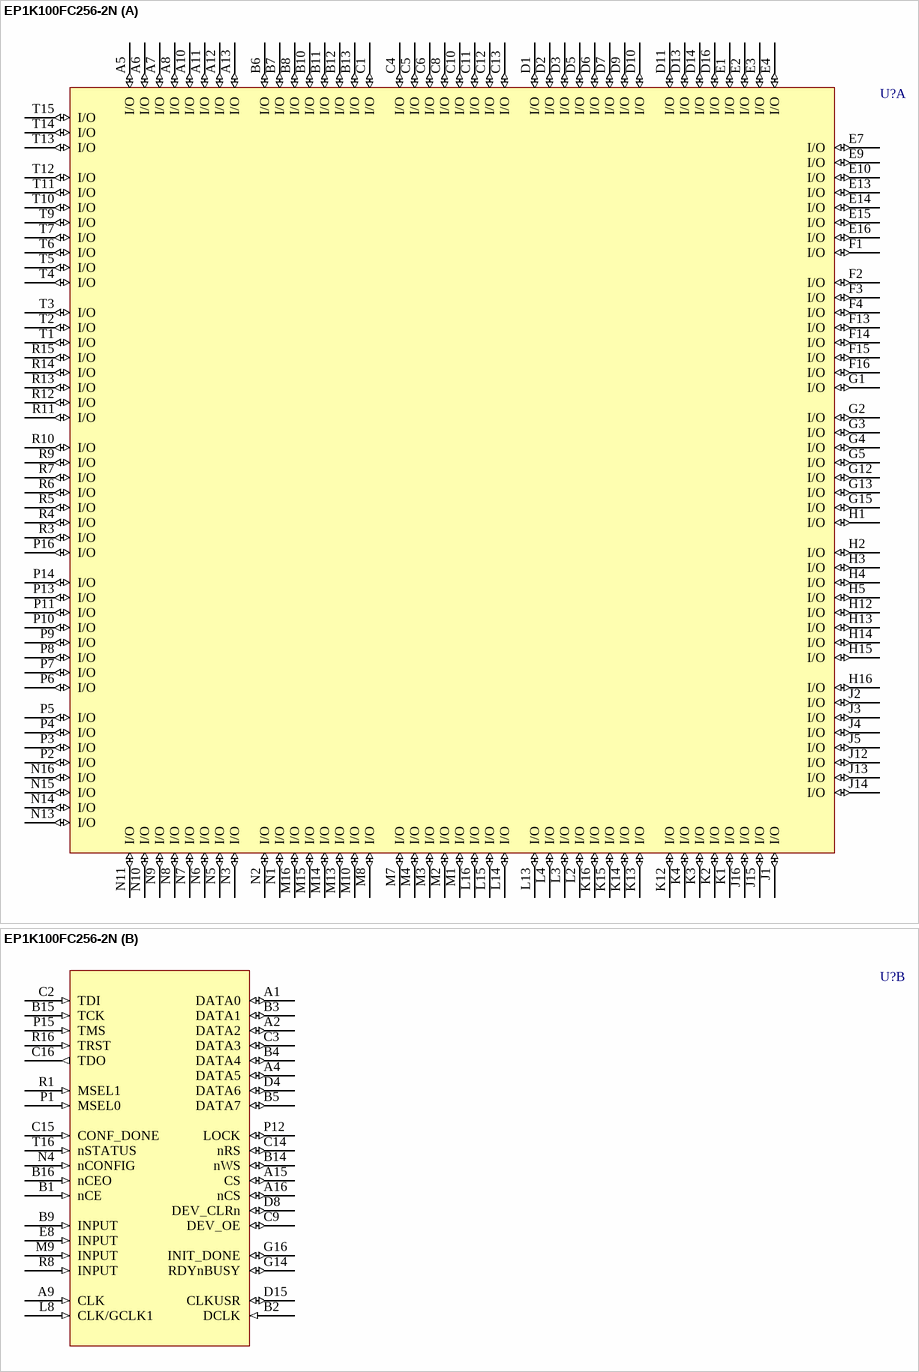
[diagram p47: symbol EP1K100FC256-2N]

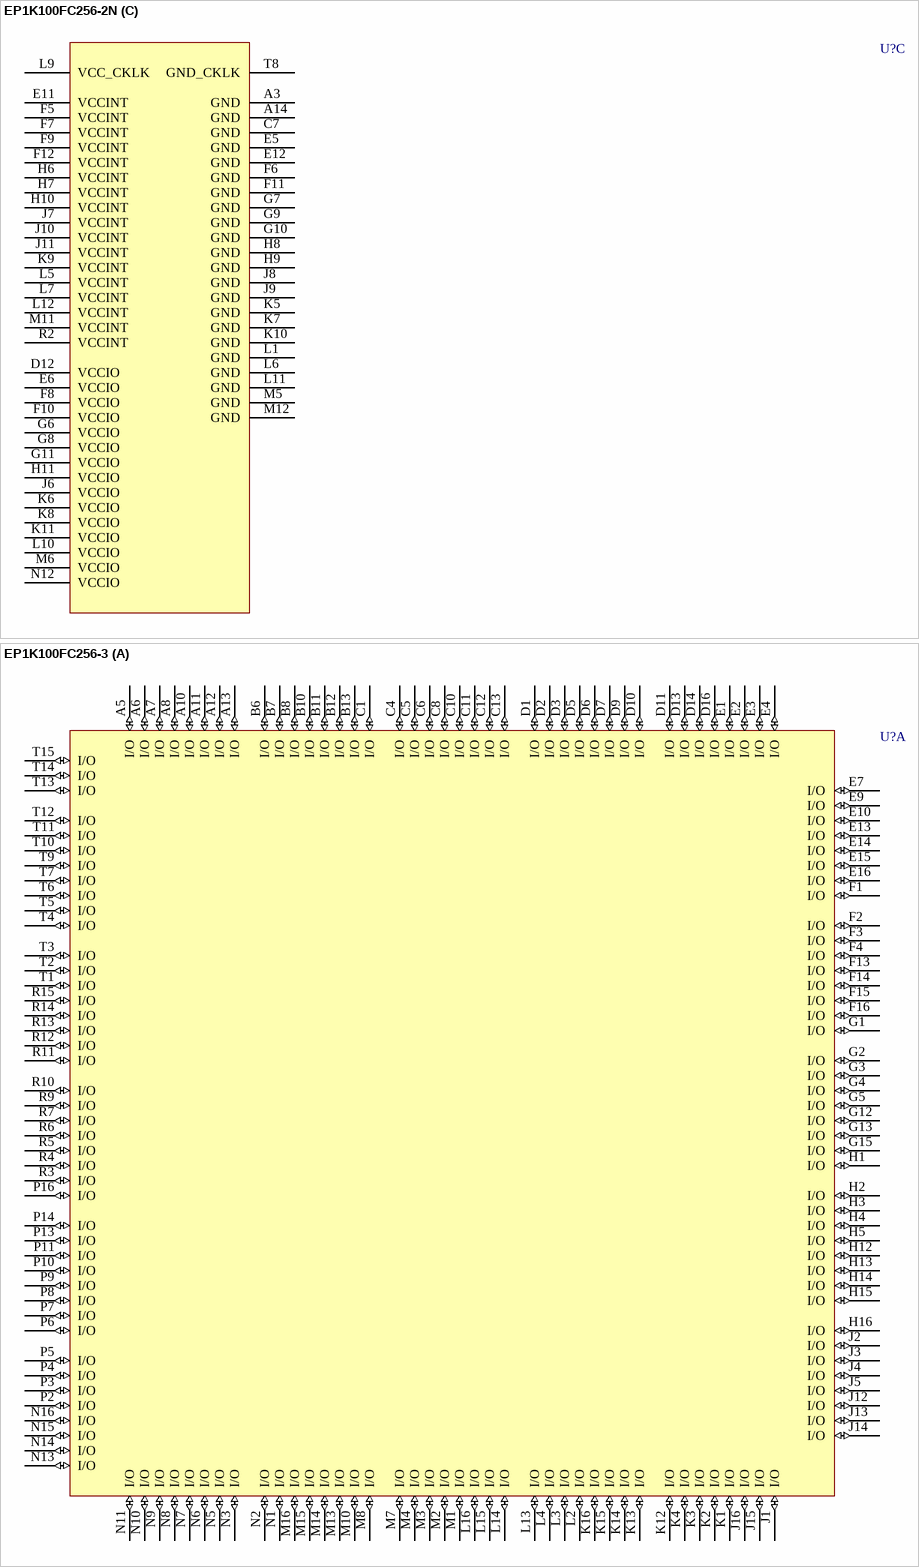
[diagram p48: symbols EP1K100FC256-2N to EP1K100FC256-3]

## EP1K100FC256-2N
designator U?
ACEX 1K PLD with 186 I/O Pins, 256-pin FBGA, Commercial Grade, Speed Grade 2, Pb-Free; Published: 4-Mar-2005; LatestRevisionDate: 13-Apr-2006; LatestRevisionNote: IPC-7351 Footprint Added.; DatasheetVersion: May-2003; PackageVersion: ver14.1, Oct-2005; PackageReference: FBGA256; Publisher: Altium Limited; PackageDescription: 256-Ball FineLine Ball Grid Array (FBGA256) - Option 1; Code_JEDEC: MS-034-AAF-1; Code_IPC: BGA100P16X16-256; ComponentLink1Description: Manufacturer Link; ComponentLink1URL: http://www.altera.com/products/devices/acex/acx-index.html; ComponentLink2Description: Datasheet; ComponentLink2URL: http://www.altera.com/literature/ds/acex.pdf
footprint FBGA256 (BGA, 256-Leads, Body 17x17mm, Pitch 1mm)
3D model EP1K100-FBGA256 (256-Ball FineLine Ball Grid Array (FBGA256) - Option 1)
part A pins: A5 I/O (io), A6 I/O (io), A7 I/O (io), A8 I/O (io), A10 I/O (io), A11 I/O (io), A12 I/O (io), A13 I/O (io), B6 I/O (io), B7 I/O (io), B8 I/O (io), B10 I/O (io), B11 I/O (io), B12 I/O (io), B13 I/O (io), C1 I/O (io), C4 I/O (io), C5 I/O (io), C6 I/O (io), C8 I/O (io), C10 I/O (io), C11 I/O (io), C12 I/O (io), C13 I/O (io), D1 I/O (io), D2 I/O (io), D3 I/O (io), D5 I/O (io), D6 I/O (io), D7 I/O (io), D9 I/O (io), D10 I/O (io), D11 I/O (io), D13 I/O (io), D14 I/O (io), D16 I/O (io), E1 I/O (io), E2 I/O (io), E3 I/O (io), E4 I/O (io), E7 I/O (io), E9 I/O (io), E10 I/O (io), E13 I/O (io), E14 I/O (io), E15 I/O (io), E16 I/O (io), F1 I/O (io), F2 I/O (io), F3 I/O (io), F4 I/O (io), F13 I/O (io), F14 I/O (io), F15 I/O (io), F16 I/O (io), G1 I/O (io), G2 I/O (io), G3 I/O (io), G4 I/O (io), G5 I/O (io), G12 I/O (io), G13 I/O (io), G15 I/O (io), H1 I/O (io), H2 I/O (io), H3 I/O (io), H4 I/O (io), H5 I/O (io), H12 I/O (io), H13 I/O (io), H14 I/O (io), H15 I/O (io), H16 I/O (io), J1 I/O (io), J2 I/O (io), J3 I/O (io), J4 I/O (io), J5 I/O (io), J12 I/O (io), J13 I/O (io), J14 I/O (io), J15 I/O (io), J16 I/O (io), K1 I/O (io), K2 I/O (io), K3 I/O (io), K4 I/O (io), K12 I/O (io), K13 I/O (io), K14 I/O (io), K15 I/O (io), K16 I/O (io), L2 I/O (io), L3 I/O (io), L4 I/O (io), L13 I/O (io), L14 I/O (io), L15 I/O (io), L16 I/O (io), M1 I/O (io), M2 I/O (io), M3 I/O (io), M4 I/O (io), M7 I/O (io), M8 I/O (io), M10 I/O (io), M13 I/O (io), M14 I/O (io), M15 I/O (io), M16 I/O (io), N1 I/O (io), N2 I/O (io), N3 I/O (io), N5 I/O (io), N6 I/O (io), N7 I/O (io), N8 I/O (io), N9 I/O (io), N10 I/O (io), N11 I/O (io), N13 I/O (io), N14 I/O (io), N15 I/O (io), N16 I/O (io), P2 I/O (io), P3 I/O (io), P4 I/O (io), P5 I/O (io), P6 I/O (io), P7 I/O (io), P8 I/O (io), P9 I/O (io), P10 I/O (io), P11 I/O (io), P13 I/O (io), P14 I/O (io), P16 I/O (io), R3 I/O (io), R4 I/O (io), R5 I/O (io), R6 I/O (io), R7 I/O (io), R9 I/O (io), R10 I/O (io), R11 I/O (io), R12 I/O (io), R13 I/O (io), R14 I/O (io), R15 I/O (io), T1 I/O (io), T2 I/O (io), T3 I/O (io), T4 I/O (io), T5 I/O (io), T6 I/O (io), T7 I/O (io), T9 I/O (io), T10 I/O (io), T11 I/O (io), T12 I/O (io), T13 I/O (io), T14 I/O (io), T15 I/O (io)
part B pins: A1 DATA0 (io), A2 DATA2 (io), A4 DATA5 (io), A9 CLK (in), A15 CS (io), A16 nCS (io), B1 nCE (in), B2 DCLK (in), B3 DATA1 (io), B4 DATA4 (io), B5 DATA7 (io), B9 INPUT (in), B14 nWS (io), B15 TCK (in), B16 nCEO (in), C2 TDI (in), C3 DATA3 (io), C9 DEV_OE (io), C14 nRS (io), C15 CONF_DONE (in), C16 TDO (out), D4 DATA6 (io), D8 DEV_CLRn (io), D15 CLKUSR (io), E8 INPUT (in), G14 RDYnBUSY (io), G16 INIT_DONE (io), L8 CLK/GCLK1 (in), M9 INPUT (in), N4 nCONFIG (in), P1 MSEL0 (in), P12 LOCK (io), P15 TMS (in), R1 MSEL1 (in), R8 INPUT (in), R16 TRST (in), T16 nSTATUS (in)
part C pins: A3 GND (power), A14 GND (power), C7 GND (power), D12 VCCIO (power), E5 GND (power), E6 VCCIO (power), E11 VCCINT (power), E12 GND (power), F5 VCCINT (power), F6 GND (power), F7 VCCINT (power), F8 VCCIO (power), F9 VCCINT (power), F10 VCCIO (power), F11 GND (power), F12 VCCINT (power), G6 VCCIO (power), G7 GND (power), G8 VCCIO (power), G9 GND (power), G10 GND (power), G11 VCCIO (power), H6 VCCINT (power), H7 VCCINT (power), H8 GND (power), H9 GND (power), H10 VCCINT (power), H11 VCCIO (power), J6 VCCIO (power), J7 VCCINT (power), J8 GND (power), J9 GND (power), J10 VCCINT (power), J11 VCCINT (power), K5 GND (power), K6 VCCIO (power), K7 GND (power), K8 VCCIO (power), K9 VCCINT (power), K10 GND (power), K11 VCCIO (power), L1 GND (power), L5 VCCINT (power), L6 GND (power), L7 VCCINT (power), L9 VCC_CKLK (power), L10 VCCIO (power), L11 GND (power), L12 VCCINT (power), M5 GND (power), M6 VCCIO (power), M11 VCCINT (power), M12 GND (power), N12 VCCIO (power), R2 VCCINT (power), T8 GND_CKLK (power)

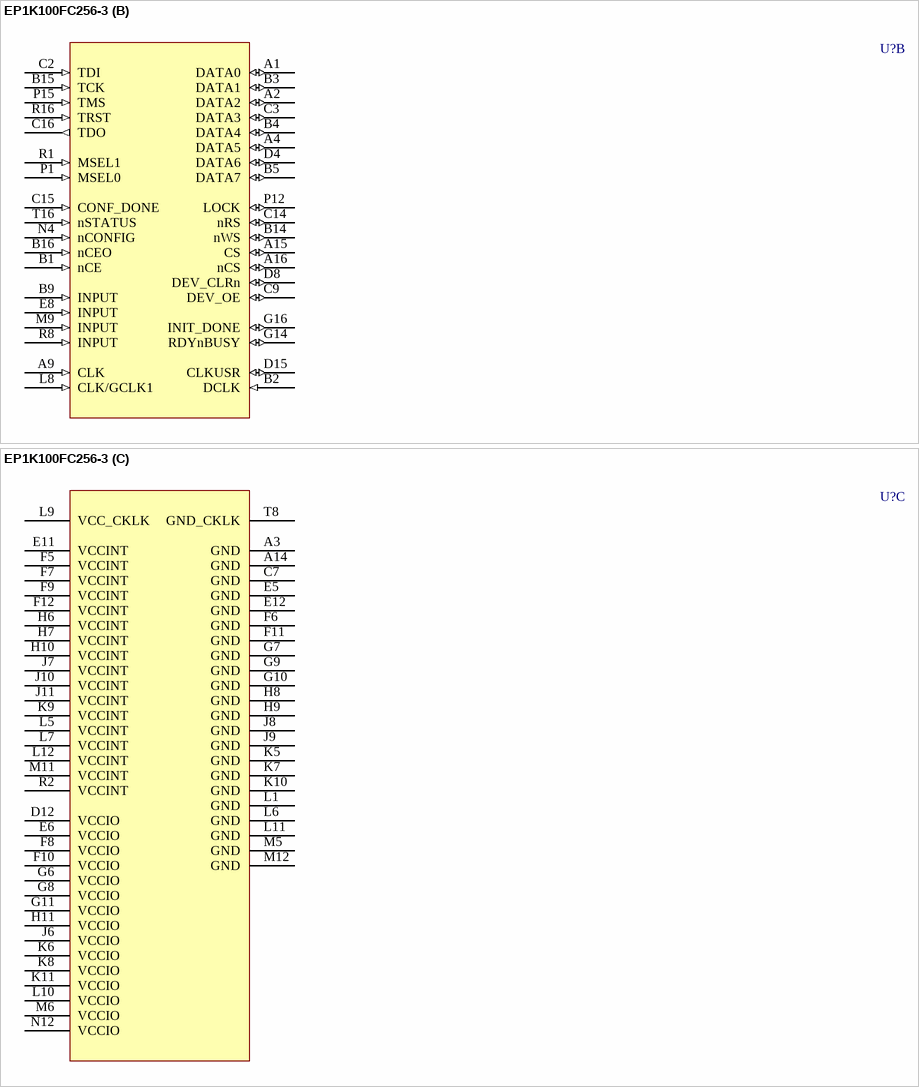
[diagram p49: symbol EP1K100FC256-3]

## EP1K100FC256-3
designator U?
ACEX 1K PLD with 186 I/O Pins, 256-pin FBGA, Commercial Grade, Speed Grade 3; Published: 17-Jul-2002; LatestRevisionDate: 13-Apr-2006; LatestRevisionNote: IPC-7351 Footprint Added.; DatasheetVersion: May-2003; PackageVersion: ver14.1, Oct-2005; PackageReference: FBGA256; Publisher: Altium Limited; PackageDescription: 256-Ball FineLine Ball Grid Array (FBGA256) - Option 1; Code_JEDEC: MS-034-AAF-1; Code_IPC: BGA100P16X16-256; ComponentLink1Description: Manufacturer Link; ComponentLink1URL: http://www.altera.com/products/devices/acex/acx-index.html; ComponentLink2Description: Datasheet; ComponentLink2URL: http://www.altera.com/literature/ds/acex.pdf
footprint FBGA256 (BGA, 256-Leads, Body 17x17mm, Pitch 1mm)
3D model EP1K100-FBGA256 (256-Ball FineLine Ball Grid Array (FBGA256) - Option 1)
part A pins: A5 I/O (io), A6 I/O (io), A7 I/O (io), A8 I/O (io), A10 I/O (io), A11 I/O (io), A12 I/O (io), A13 I/O (io), B6 I/O (io), B7 I/O (io), B8 I/O (io), B10 I/O (io), B11 I/O (io), B12 I/O (io), B13 I/O (io), C1 I/O (io), C4 I/O (io), C5 I/O (io), C6 I/O (io), C8 I/O (io), C10 I/O (io), C11 I/O (io), C12 I/O (io), C13 I/O (io), D1 I/O (io), D2 I/O (io), D3 I/O (io), D5 I/O (io), D6 I/O (io), D7 I/O (io), D9 I/O (io), D10 I/O (io), D11 I/O (io), D13 I/O (io), D14 I/O (io), D16 I/O (io), E1 I/O (io), E2 I/O (io), E3 I/O (io), E4 I/O (io), E7 I/O (io), E9 I/O (io), E10 I/O (io), E13 I/O (io), E14 I/O (io), E15 I/O (io), E16 I/O (io), F1 I/O (io), F2 I/O (io), F3 I/O (io), F4 I/O (io), F13 I/O (io), F14 I/O (io), F15 I/O (io), F16 I/O (io), G1 I/O (io), G2 I/O (io), G3 I/O (io), G4 I/O (io), G5 I/O (io), G12 I/O (io), G13 I/O (io), G15 I/O (io), H1 I/O (io), H2 I/O (io), H3 I/O (io), H4 I/O (io), H5 I/O (io), H12 I/O (io), H13 I/O (io), H14 I/O (io), H15 I/O (io), H16 I/O (io), J1 I/O (io), J2 I/O (io), J3 I/O (io), J4 I/O (io), J5 I/O (io), J12 I/O (io), J13 I/O (io), J14 I/O (io), J15 I/O (io), J16 I/O (io), K1 I/O (io), K2 I/O (io), K3 I/O (io), K4 I/O (io), K12 I/O (io), K13 I/O (io), K14 I/O (io), K15 I/O (io), K16 I/O (io), L2 I/O (io), L3 I/O (io), L4 I/O (io), L13 I/O (io), L14 I/O (io), L15 I/O (io), L16 I/O (io), M1 I/O (io), M2 I/O (io), M3 I/O (io), M4 I/O (io), M7 I/O (io), M8 I/O (io), M10 I/O (io), M13 I/O (io), M14 I/O (io), M15 I/O (io), M16 I/O (io), N1 I/O (io), N2 I/O (io), N3 I/O (io), N5 I/O (io), N6 I/O (io), N7 I/O (io), N8 I/O (io), N9 I/O (io), N10 I/O (io), N11 I/O (io), N13 I/O (io), N14 I/O (io), N15 I/O (io), N16 I/O (io), P2 I/O (io), P3 I/O (io), P4 I/O (io), P5 I/O (io), P6 I/O (io), P7 I/O (io), P8 I/O (io), P9 I/O (io), P10 I/O (io), P11 I/O (io), P13 I/O (io), P14 I/O (io), P16 I/O (io), R3 I/O (io), R4 I/O (io), R5 I/O (io), R6 I/O (io), R7 I/O (io), R9 I/O (io), R10 I/O (io), R11 I/O (io), R12 I/O (io), R13 I/O (io), R14 I/O (io), R15 I/O (io), T1 I/O (io), T2 I/O (io), T3 I/O (io), T4 I/O (io), T5 I/O (io), T6 I/O (io), T7 I/O (io), T9 I/O (io), T10 I/O (io), T11 I/O (io), T12 I/O (io), T13 I/O (io), T14 I/O (io), T15 I/O (io)
part B pins: A1 DATA0 (io), A2 DATA2 (io), A4 DATA5 (io), A9 CLK (in), A15 CS (io), A16 nCS (io), B1 nCE (in), B2 DCLK (in), B3 DATA1 (io), B4 DATA4 (io), B5 DATA7 (io), B9 INPUT (in), B14 nWS (io), B15 TCK (in), B16 nCEO (in), C2 TDI (in), C3 DATA3 (io), C9 DEV_OE (io), C14 nRS (io), C15 CONF_DONE (in), C16 TDO (out), D4 DATA6 (io), D8 DEV_CLRn (io), D15 CLKUSR (io), E8 INPUT (in), G14 RDYnBUSY (io), G16 INIT_DONE (io), L8 CLK/GCLK1 (in), M9 INPUT (in), N4 nCONFIG (in), P1 MSEL0 (in), P12 LOCK (io), P15 TMS (in), R1 MSEL1 (in), R8 INPUT (in), R16 TRST (in), T16 nSTATUS (in)
part C pins: A3 GND (power), A14 GND (power), C7 GND (power), D12 VCCIO (power), E5 GND (power), E6 VCCIO (power), E11 VCCINT (power), E12 GND (power), F5 VCCINT (power), F6 GND (power), F7 VCCINT (power), F8 VCCIO (power), F9 VCCINT (power), F10 VCCIO (power), F11 GND (power), F12 VCCINT (power), G6 VCCIO (power), G7 GND (power), G8 VCCIO (power), G9 GND (power), G10 GND (power), G11 VCCIO (power), H6 VCCINT (power), H7 VCCINT (power), H8 GND (power), H9 GND (power), H10 VCCINT (power), H11 VCCIO (power), J6 VCCIO (power), J7 VCCINT (power), J8 GND (power), J9 GND (power), J10 VCCINT (power), J11 VCCINT (power), K5 GND (power), K6 VCCIO (power), K7 GND (power), K8 VCCIO (power), K9 VCCINT (power), K10 GND (power), K11 VCCIO (power), L1 GND (power), L5 VCCINT (power), L6 GND (power), L7 VCCINT (power), L9 VCC_CKLK (power), L10 VCCIO (power), L11 GND (power), L12 VCCINT (power), M5 GND (power), M6 VCCIO (power), M11 VCCINT (power), M12 GND (power), N12 VCCIO (power), R2 VCCINT (power), T8 GND_CKLK (power)

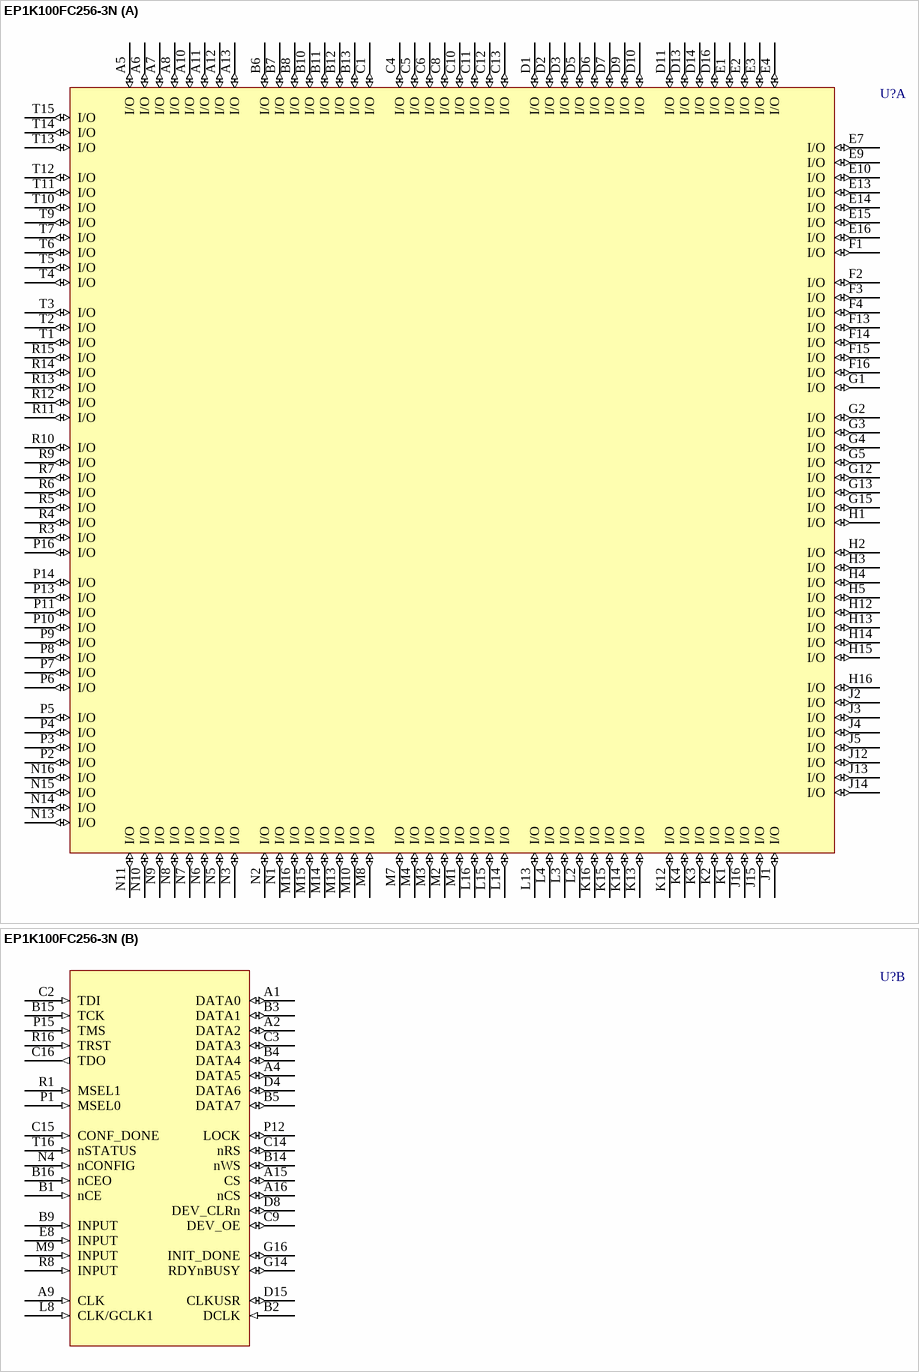
[diagram p50: symbol EP1K100FC256-3N]

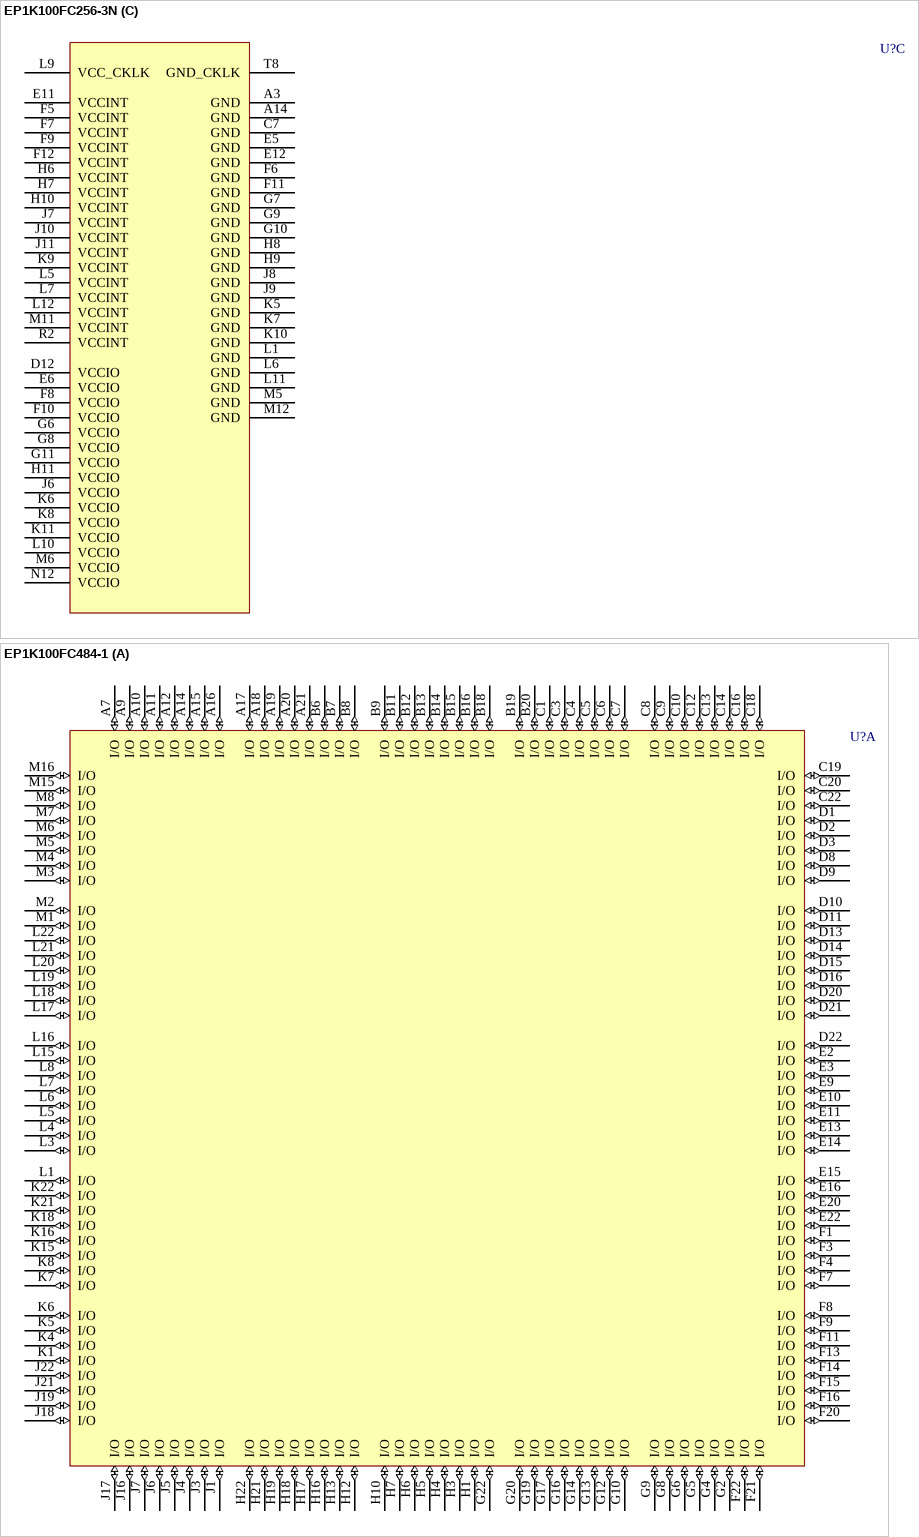
[diagram p51: symbols EP1K100FC256-3N to EP1K100FC484-1]

## EP1K100FC256-3N
designator U?
ACEX 1K PLD with 186 I/O Pins, 256-pin FBGA, Commercial Grade, Speed Grade 3, Pb-Free; Published: 4-Mar-2005; LatestRevisionDate: 13-Apr-2006; LatestRevisionNote: IPC-7351 Footprint Added.; DatasheetVersion: May-2003; PackageVersion: ver14.1, Oct-2005; PackageReference: FBGA256; Publisher: Altium Limited; PackageDescription: 256-Ball FineLine Ball Grid Array (FBGA256) - Option 1; Code_JEDEC: MS-034-AAF-1; Code_IPC: BGA100P16X16-256; ComponentLink1Description: Manufacturer Link; ComponentLink1URL: http://www.altera.com/products/devices/acex/acx-index.html; ComponentLink2Description: Datasheet; ComponentLink2URL: http://www.altera.com/literature/ds/acex.pdf
footprint FBGA256 (BGA, 256-Leads, Body 17x17mm, Pitch 1mm)
3D model EP1K100-FBGA256 (256-Ball FineLine Ball Grid Array (FBGA256) - Option 1)
part A pins: A5 I/O (io), A6 I/O (io), A7 I/O (io), A8 I/O (io), A10 I/O (io), A11 I/O (io), A12 I/O (io), A13 I/O (io), B6 I/O (io), B7 I/O (io), B8 I/O (io), B10 I/O (io), B11 I/O (io), B12 I/O (io), B13 I/O (io), C1 I/O (io), C4 I/O (io), C5 I/O (io), C6 I/O (io), C8 I/O (io), C10 I/O (io), C11 I/O (io), C12 I/O (io), C13 I/O (io), D1 I/O (io), D2 I/O (io), D3 I/O (io), D5 I/O (io), D6 I/O (io), D7 I/O (io), D9 I/O (io), D10 I/O (io), D11 I/O (io), D13 I/O (io), D14 I/O (io), D16 I/O (io), E1 I/O (io), E2 I/O (io), E3 I/O (io), E4 I/O (io), E7 I/O (io), E9 I/O (io), E10 I/O (io), E13 I/O (io), E14 I/O (io), E15 I/O (io), E16 I/O (io), F1 I/O (io), F2 I/O (io), F3 I/O (io), F4 I/O (io), F13 I/O (io), F14 I/O (io), F15 I/O (io), F16 I/O (io), G1 I/O (io), G2 I/O (io), G3 I/O (io), G4 I/O (io), G5 I/O (io), G12 I/O (io), G13 I/O (io), G15 I/O (io), H1 I/O (io), H2 I/O (io), H3 I/O (io), H4 I/O (io), H5 I/O (io), H12 I/O (io), H13 I/O (io), H14 I/O (io), H15 I/O (io), H16 I/O (io), J1 I/O (io), J2 I/O (io), J3 I/O (io), J4 I/O (io), J5 I/O (io), J12 I/O (io), J13 I/O (io), J14 I/O (io), J15 I/O (io), J16 I/O (io), K1 I/O (io), K2 I/O (io), K3 I/O (io), K4 I/O (io), K12 I/O (io), K13 I/O (io), K14 I/O (io), K15 I/O (io), K16 I/O (io), L2 I/O (io), L3 I/O (io), L4 I/O (io), L13 I/O (io), L14 I/O (io), L15 I/O (io), L16 I/O (io), M1 I/O (io), M2 I/O (io), M3 I/O (io), M4 I/O (io), M7 I/O (io), M8 I/O (io), M10 I/O (io), M13 I/O (io), M14 I/O (io), M15 I/O (io), M16 I/O (io), N1 I/O (io), N2 I/O (io), N3 I/O (io), N5 I/O (io), N6 I/O (io), N7 I/O (io), N8 I/O (io), N9 I/O (io), N10 I/O (io), N11 I/O (io), N13 I/O (io), N14 I/O (io), N15 I/O (io), N16 I/O (io), P2 I/O (io), P3 I/O (io), P4 I/O (io), P5 I/O (io), P6 I/O (io), P7 I/O (io), P8 I/O (io), P9 I/O (io), P10 I/O (io), P11 I/O (io), P13 I/O (io), P14 I/O (io), P16 I/O (io), R3 I/O (io), R4 I/O (io), R5 I/O (io), R6 I/O (io), R7 I/O (io), R9 I/O (io), R10 I/O (io), R11 I/O (io), R12 I/O (io), R13 I/O (io), R14 I/O (io), R15 I/O (io), T1 I/O (io), T2 I/O (io), T3 I/O (io), T4 I/O (io), T5 I/O (io), T6 I/O (io), T7 I/O (io), T9 I/O (io), T10 I/O (io), T11 I/O (io), T12 I/O (io), T13 I/O (io), T14 I/O (io), T15 I/O (io)
part B pins: A1 DATA0 (io), A2 DATA2 (io), A4 DATA5 (io), A9 CLK (in), A15 CS (io), A16 nCS (io), B1 nCE (in), B2 DCLK (in), B3 DATA1 (io), B4 DATA4 (io), B5 DATA7 (io), B9 INPUT (in), B14 nWS (io), B15 TCK (in), B16 nCEO (in), C2 TDI (in), C3 DATA3 (io), C9 DEV_OE (io), C14 nRS (io), C15 CONF_DONE (in), C16 TDO (out), D4 DATA6 (io), D8 DEV_CLRn (io), D15 CLKUSR (io), E8 INPUT (in), G14 RDYnBUSY (io), G16 INIT_DONE (io), L8 CLK/GCLK1 (in), M9 INPUT (in), N4 nCONFIG (in), P1 MSEL0 (in), P12 LOCK (io), P15 TMS (in), R1 MSEL1 (in), R8 INPUT (in), R16 TRST (in), T16 nSTATUS (in)
part C pins: A3 GND (power), A14 GND (power), C7 GND (power), D12 VCCIO (power), E5 GND (power), E6 VCCIO (power), E11 VCCINT (power), E12 GND (power), F5 VCCINT (power), F6 GND (power), F7 VCCINT (power), F8 VCCIO (power), F9 VCCINT (power), F10 VCCIO (power), F11 GND (power), F12 VCCINT (power), G6 VCCIO (power), G7 GND (power), G8 VCCIO (power), G9 GND (power), G10 GND (power), G11 VCCIO (power), H6 VCCINT (power), H7 VCCINT (power), H8 GND (power), H9 GND (power), H10 VCCINT (power), H11 VCCIO (power), J6 VCCIO (power), J7 VCCINT (power), J8 GND (power), J9 GND (power), J10 VCCINT (power), J11 VCCINT (power), K5 GND (power), K6 VCCIO (power), K7 GND (power), K8 VCCIO (power), K9 VCCINT (power), K10 GND (power), K11 VCCIO (power), L1 GND (power), L5 VCCINT (power), L6 GND (power), L7 VCCINT (power), L9 VCC_CKLK (power), L10 VCCIO (power), L11 GND (power), L12 VCCINT (power), M5 GND (power), M6 VCCIO (power), M11 VCCINT (power), M12 GND (power), N12 VCCIO (power), R2 VCCINT (power), T8 GND_CKLK (power)

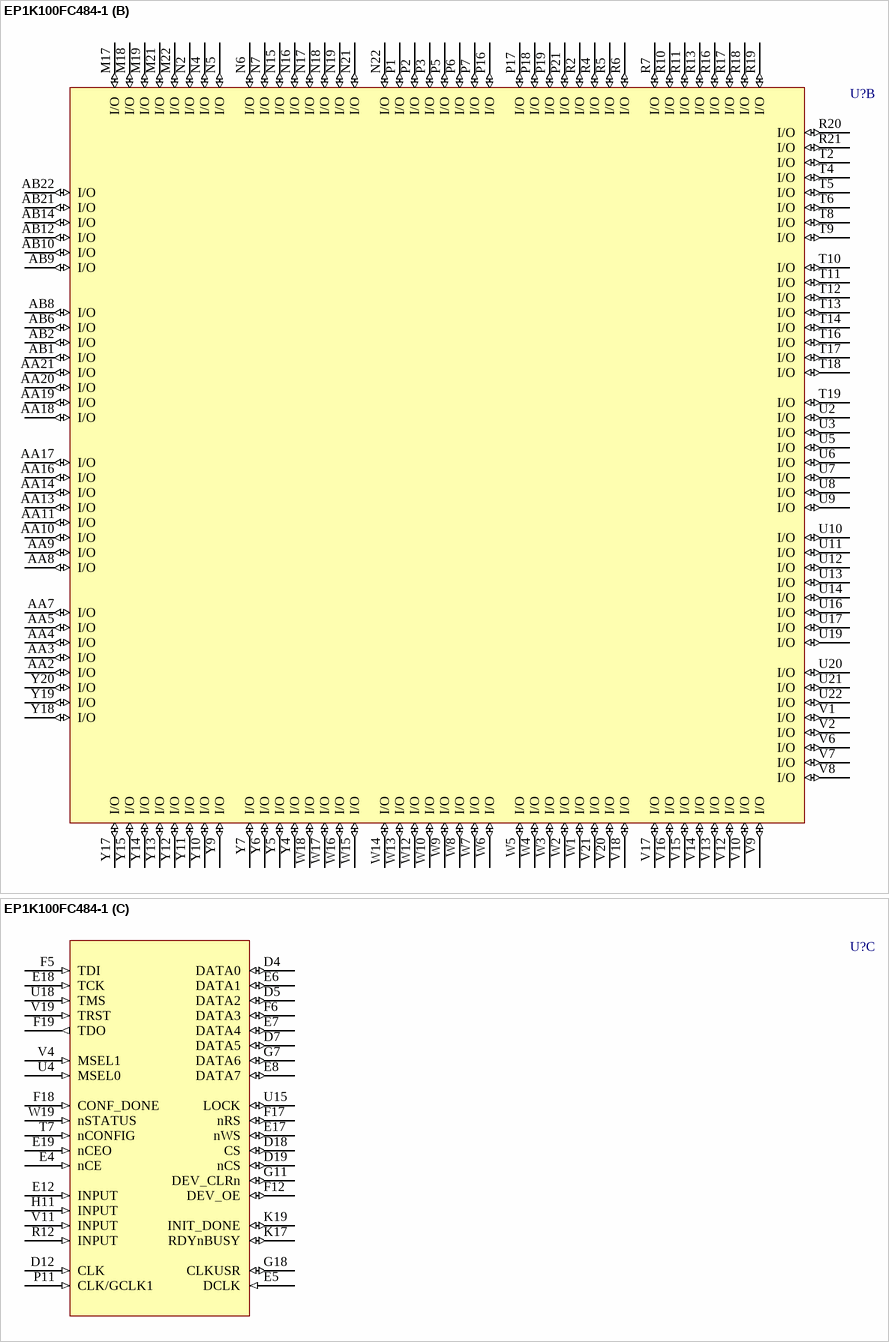
[diagram p52: symbol EP1K100FC484-1]

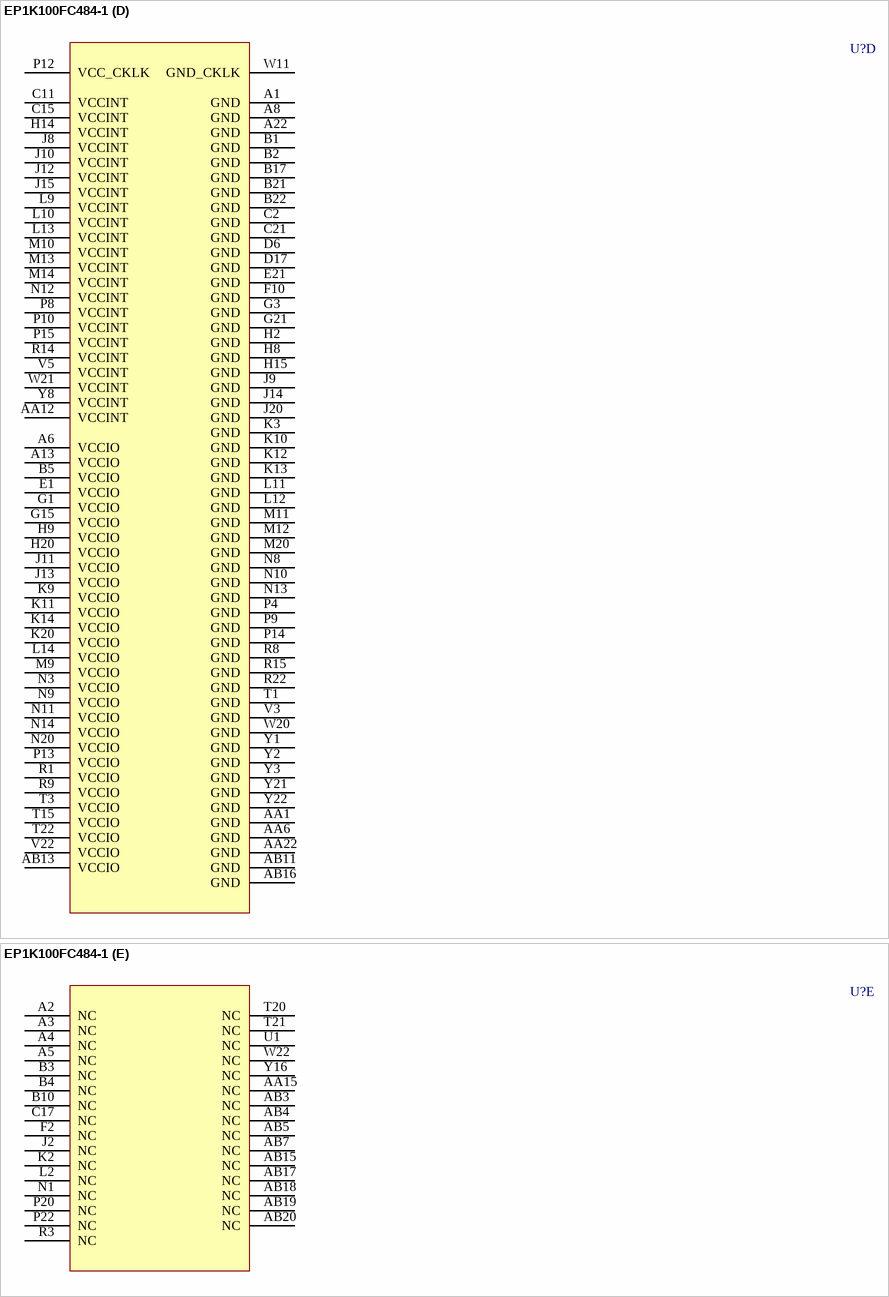
[diagram p53: symbol EP1K100FC484-1]

## EP1K100FC484-1
designator U?
ACEX 1K PLD with 333 I/O Pins, 484-pin FBGA, Commercial Grade, Speed Grade 1; Published: 17-Jul-2002; LatestRevisionDate: 13-Apr-2006; LatestRevisionNote: IPC-7351 Footprint Added.; DatasheetVersion: May-2003; PackageVersion: ver14.1, Oct-2005; PackageReference: FBGA484; Publisher: Altium Limited; PackageDescription: 484-Ball FineLine Ball Grid Array (FBGA484) - Flip Chip; Code_JEDEC: MS-034-AAJ-1; Code_IPC: BGA100P22X22-484; ComponentLink1Description: Manufacturer Link; ComponentLink1URL: http://www.altera.com/products/devices/acex/acx-index.html; ComponentLink2Description: Datasheet; ComponentLink2URL: http://www.altera.com/literature/ds/acex.pdf
footprint FBGA484 (BGA, 484-Leads, Body 23x23mm, Pitch 1mm)
3D model EP1K100-FBGA484 (484-Ball FineLine Ball Grid Array (FBGA484) - Flip Chip)
part A pins: A7 I/O (io), A9 I/O (io), A10 I/O (io), A11 I/O (io), A12 I/O (io), A14 I/O (io), A15 I/O (io), A16 I/O (io), A17 I/O (io), A18 I/O (io), A19 I/O (io), A20 I/O (io), A21 I/O (io), B6 I/O (io), B7 I/O (io), B8 I/O (io), B9 I/O (io), B11 I/O (io), B12 I/O (io), B13 I/O (io), B14 I/O (io), B15 I/O (io), B16 I/O (io), B18 I/O (io), B19 I/O (io), B20 I/O (io), C1 I/O (io), C3 I/O (io), C4 I/O (io), C5 I/O (io), C6 I/O (io), C7 I/O (io), C8 I/O (io), C9 I/O (io), C10 I/O (io), C12 I/O (io), C13 I/O (io), C14 I/O (io), C16 I/O (io), C18 I/O (io), C19 I/O (io), C20 I/O (io), C22 I/O (io), D1 I/O (io), D2 I/O (io), D3 I/O (io), D8 I/O (io), D9 I/O (io), D10 I/O (io), D11 I/O (io), D13 I/O (io), D14 I/O (io), D15 I/O (io), D16 I/O (io), D20 I/O (io), D21 I/O (io), D22 I/O (io), E2 I/O (io), E3 I/O (io), E9 I/O (io), E10 I/O (io), E11 I/O (io), E13 I/O (io), E14 I/O (io), E15 I/O (io), E16 I/O (io), E20 I/O (io), E22 I/O (io), F1 I/O (io), F3 I/O (io), F4 I/O (io), F7 I/O (io), F8 I/O (io), F9 I/O (io), F11 I/O (io), F13 I/O (io), F14 I/O (io), F15 I/O (io), F16 I/O (io), F20 I/O (io), F21 I/O (io), F22 I/O (io), G2 I/O (io), G4 I/O (io), G5 I/O (io), G6 I/O (io), G8 I/O (io), G9 I/O (io), G10 I/O (io), G12 I/O (io), G13 I/O (io), G14 I/O (io), G16 I/O (io), G17 I/O (io), G19 I/O (io), G20 I/O (io), G22 I/O (io), H1 I/O (io), H3 I/O (io), H4 I/O (io), H5 I/O (io), H6 I/O (io), H7 I/O (io), H10 I/O (io), H12 I/O (io), H13 I/O (io), H16 I/O (io), H17 I/O (io), H18 I/O (io), H19 I/O (io), H21 I/O (io), H22 I/O (io), J1 I/O (io), J3 I/O (io), J4 I/O (io), J5 I/O (io), J6 I/O (io), J7 I/O (io), J16 I/O (io), J17 I/O (io), J18 I/O (io), J19 I/O (io), J21 I/O (io), J22 I/O (io), K1 I/O (io), K4 I/O (io), K5 I/O (io), K6 I/O (io), K7 I/O (io), K8 I/O (io), K15 I/O (io), K16 I/O (io), K18 I/O (io), K21 I/O (io), K22 I/O (io), L1 I/O (io), L3 I/O (io), L4 I/O (io), L5 I/O (io), L6 I/O (io), L7 I/O (io), L8 I/O (io), L15 I/O (io), L16 I/O (io), L17 I/O (io), L18 I/O (io), L19 I/O (io), L20 I/O (io), L21 I/O (io), L22 I/O (io), M1 I/O (io), M2 I/O (io), M3 I/O (io), M4 I/O (io), M5 I/O (io), M6 I/O (io), M7 I/O (io), M8 I/O (io), M15 I/O (io), M16 I/O (io)
part B pins: AA2 I/O (io), AA3 I/O (io), AA4 I/O (io), AA5 I/O (io), AA7 I/O (io), AA8 I/O (io), AA9 I/O (io), AA10 I/O (io), AA11 I/O (io), AA13 I/O (io), AA14 I/O (io), AA16 I/O (io), AA17 I/O (io), AA18 I/O (io), AA19 I/O (io), AA20 I/O (io), AA21 I/O (io), AB1 I/O (io), AB2 I/O (io), AB6 I/O (io), AB8 I/O (io), AB9 I/O (io), AB10 I/O (io), AB12 I/O (io), AB14 I/O (io), AB21 I/O (io), AB22 I/O (io), M17 I/O (io), M18 I/O (io), M19 I/O (io), M21 I/O (io), M22 I/O (io), N2 I/O (io), N4 I/O (io), N5 I/O (io), N6 I/O (io), N7 I/O (io), N15 I/O (io), N16 I/O (io), N17 I/O (io), N18 I/O (io), N19 I/O (io), N21 I/O (io), N22 I/O (io), P1 I/O (io), P2 I/O (io), P3 I/O (io), P5 I/O (io), P6 I/O (io), P7 I/O (io), P16 I/O (io), P17 I/O (io), P18 I/O (io), P19 I/O (io), P21 I/O (io), R2 I/O (io), R4 I/O (io), R5 I/O (io), R6 I/O (io), R7 I/O (io), R10 I/O (io), R11 I/O (io), R13 I/O (io), R16 I/O (io), R17 I/O (io), R18 I/O (io), R19 I/O (io), R20 I/O (io), R21 I/O (io), T2 I/O (io), T4 I/O (io), T5 I/O (io), T6 I/O (io), T8 I/O (io), T9 I/O (io), T10 I/O (io), T11 I/O (io), T12 I/O (io), T13 I/O (io), T14 I/O (io), T16 I/O (io), T17 I/O (io), T18 I/O (io), T19 I/O (io), U2 I/O (io), U3 I/O (io), U5 I/O (io), U6 I/O (io), U7 I/O (io), U8 I/O (io), U9 I/O (io), U10 I/O (io), U11 I/O (io), U12 I/O (io), U13 I/O (io), U14 I/O (io), U16 I/O (io), U17 I/O (io), U19 I/O (io), U20 I/O (io), U21 I/O (io), U22 I/O (io), V1 I/O (io), V2 I/O (io), V6 I/O (io), V7 I/O (io), V8 I/O (io), V9 I/O (io), V10 I/O (io), V12 I/O (io), V13 I/O (io), V14 I/O (io), V15 I/O (io), V16 I/O (io), V17 I/O (io), V18 I/O (io), V20 I/O (io), V21 I/O (io), W1 I/O (io), W2 I/O (io), W3 I/O (io), W4 I/O (io), W5 I/O (io), W6 I/O (io), W7 I/O (io), W8 I/O (io), W9 I/O (io), W10 I/O (io), W12 I/O (io), W13 I/O (io), W14 I/O (io), W15 I/O (io), W16 I/O (io), W17 I/O (io), W18 I/O (io), Y4 I/O (io), Y5 I/O (io), Y6 I/O (io), Y7 I/O (io), Y9 I/O (io), Y10 I/O (io), Y11 I/O (io), Y12 I/O (io), Y13 I/O (io), Y14 I/O (io), Y15 I/O (io), Y17 I/O (io), Y18 I/O (io), Y19 I/O (io), Y20 I/O (io)
part C pins: D4 DATA0 (io), D5 DATA2 (io), D7 DATA5 (io), D12 CLK (in), D18 CS (io), D19 nCS (io), E4 nCE (in), E5 DCLK (in), E6 DATA1 (io), E7 DATA4 (io), E8 DATA7 (io), E12 INPUT (in), E17 nWS (io), E18 TCK (in), E19 nCEO (in), F5 TDI (in), F6 DATA3 (io), F12 DEV_OE (io), F17 nRS (io), F18 CONF_DONE (in), F19 TDO (out), G7 DATA6 (io), G11 DEV_CLRn (io), G18 CLKUSR (io), H11 INPUT (in), K17 RDYnBUSY (io), K19 INIT_DONE (io), P11 CLK/GCLK1 (in), R12 INPUT (in), T7 nCONFIG (in), U4 MSEL0 (in), U15 LOCK (io), U18 TMS (in), V4 MSEL1 (in), V11 INPUT (in), V19 TRST (in), W19 nSTATUS (in)
part D pins: A1 GND (power), A6 VCCIO (power), A8 GND (power), A13 VCCIO (power), A22 GND (power), AA1 GND (power), AA6 GND (power), AA12 VCCINT (power), AA22 GND (power), AB11 GND (power), AB13 VCCIO (power), AB16 GND (power), B1 GND (power), B2 GND (power), B5 VCCIO (power), B17 GND (power), B21 GND (power), B22 GND (power), C2 GND (power), C11 VCCINT (power), C15 VCCINT (power), C21 GND (power), D6 GND (power), D17 GND (power), E1 VCCIO (power), E21 GND (power), F10 GND (power), G1 VCCIO (power), G3 GND (power), G15 VCCIO (power), G21 GND (power), H2 GND (power), H8 GND (power), H9 VCCIO (power), H14 VCCINT (power), H15 GND (power), H20 VCCIO (power), J8 VCCINT (power), J9 GND (power), J10 VCCINT (power), J11 VCCIO (power), J12 VCCINT (power), J13 VCCIO (power), J14 GND (power), J15 VCCINT (power), J20 GND (power), K3 GND (power), K9 VCCIO (power), K10 GND (power), K11 VCCIO (power), K12 GND (power), K13 GND (power), K14 VCCIO (power), K20 VCCIO (power), L9 VCCINT (power), L10 VCCINT (power), L11 GND (power), L12 GND (power), L13 VCCINT (power), L14 VCCIO (power), M9 VCCIO (power), M10 VCCINT (power), M11 GND (power), M12 GND (power), M13 VCCINT (power), M14 VCCINT (power), M20 GND (power), N3 VCCIO (power), N8 GND (power), N9 VCCIO (power), N10 GND (power), N11 VCCIO (power), N12 VCCINT (power), N13 GND (power), N14 VCCIO (power), N20 VCCIO (power), P4 GND (power), P8 VCCINT (power), P9 GND (power), P10 VCCINT (power), P12 VCC_CKLK (power), P13 VCCIO (power), P14 GND (power), P15 VCCINT (power), R1 VCCIO (power), R8 GND (power), R9 VCCIO (power), R14 VCCINT (power), R15 GND (power), R22 GND (power), T1 GND (power), T3 VCCIO (power), T15 VCCIO (power), T22 VCCIO (power), V3 GND (power), V5 VCCINT (power), V22 VCCIO (power), W11 GND_CKLK (power), W20 GND (power), W21 VCCINT (power), Y1 GND (power), Y2 GND (power), Y3 GND (power), Y8 VCCINT (power), Y21 GND (power), Y22 GND (power)
part E pins: A2 NC, A3 NC, A4 NC, A5 NC, AA15 NC, AB3 NC, AB4 NC, AB5 NC, AB7 NC, AB15 NC, AB17 NC, AB18 NC, AB19 NC, AB20 NC, B3 NC, B4 NC, B10 NC, C17 NC, F2 NC, J2 NC, K2 NC, L2 NC, N1 NC, P20 NC, P22 NC, R3 NC, T20 NC, T21 NC, U1 NC, W22 NC, Y16 NC

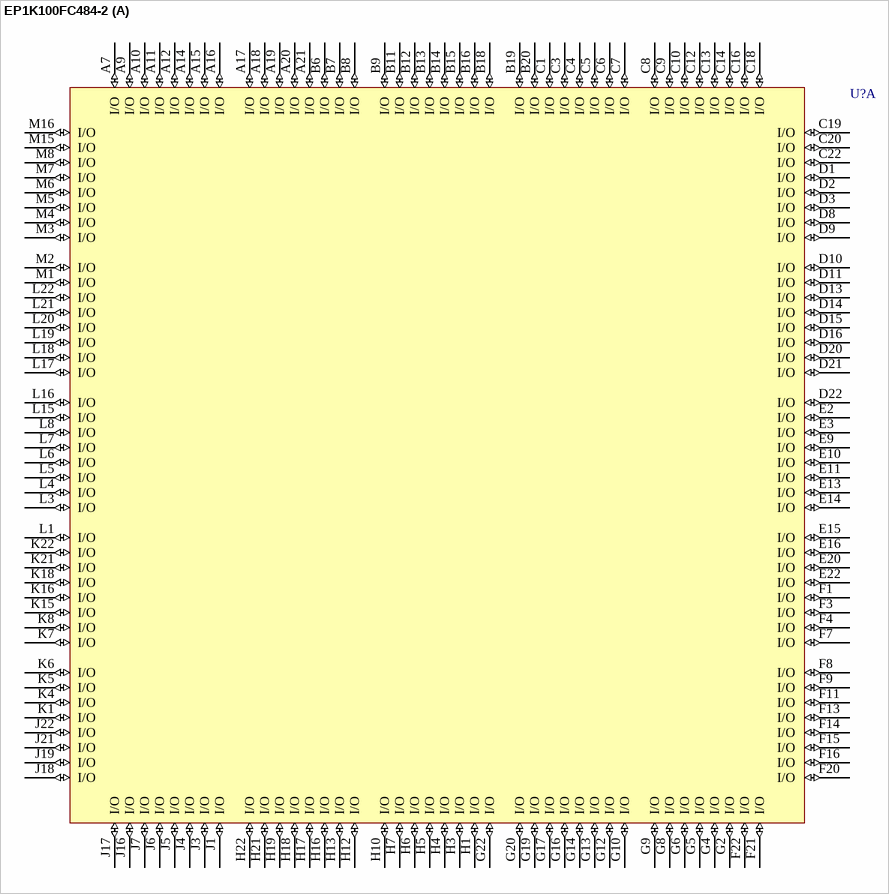
[diagram p54: symbol EP1K100FC484-2]

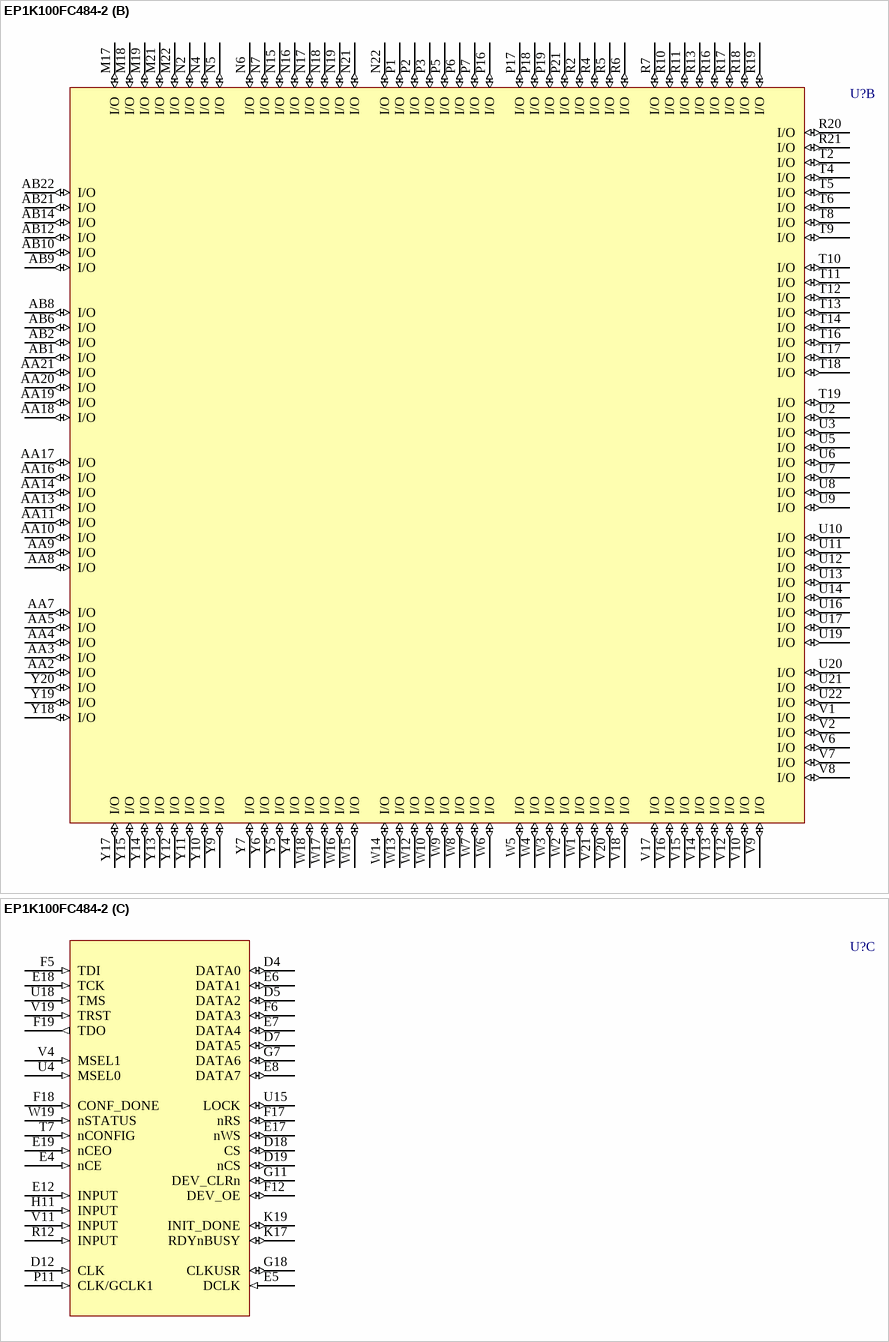
[diagram p55: symbol EP1K100FC484-2]

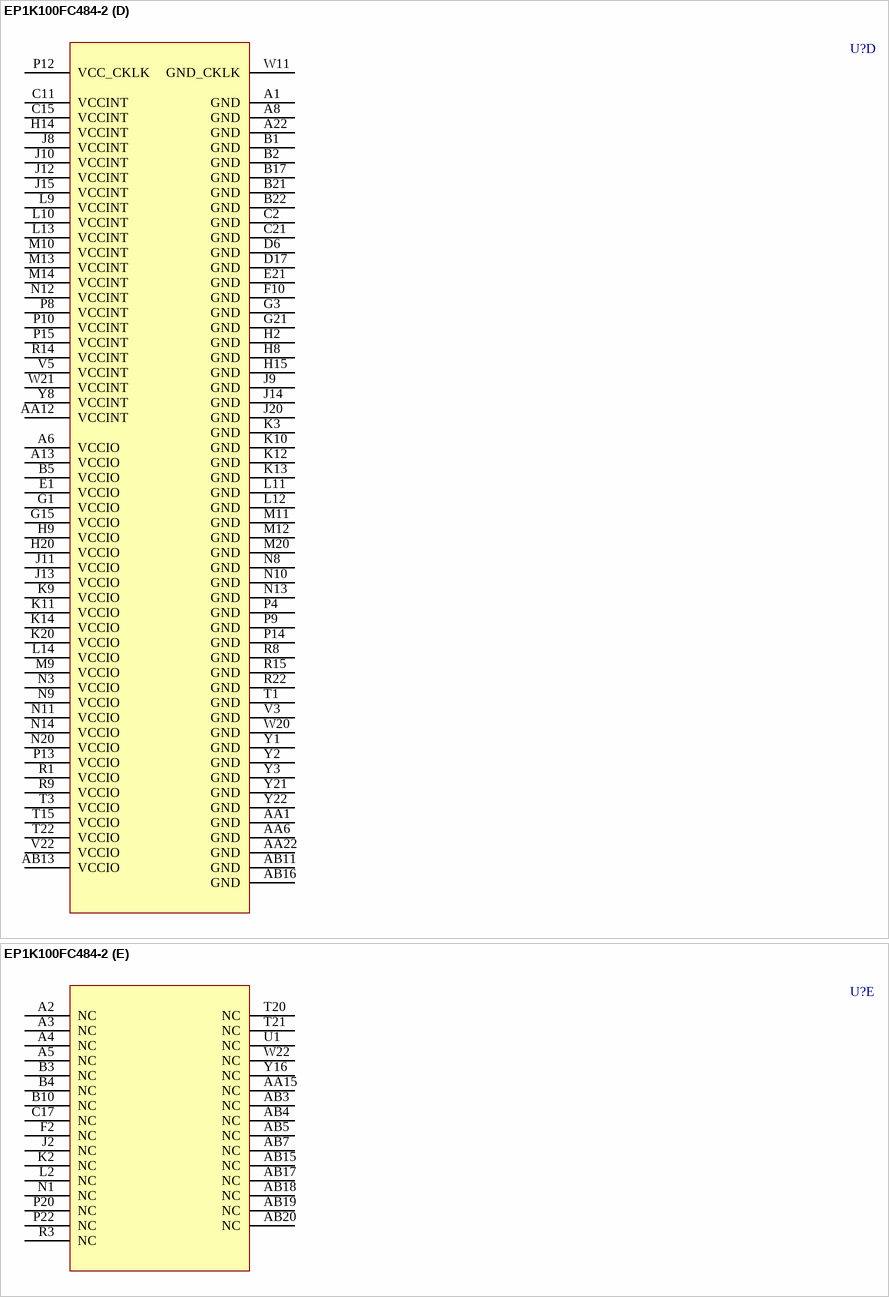
[diagram p56: symbol EP1K100FC484-2]